# Altium schematic symbol library dungvh03-CERN_Connectors.SchLib: 576 symbols (part 6 of 8)
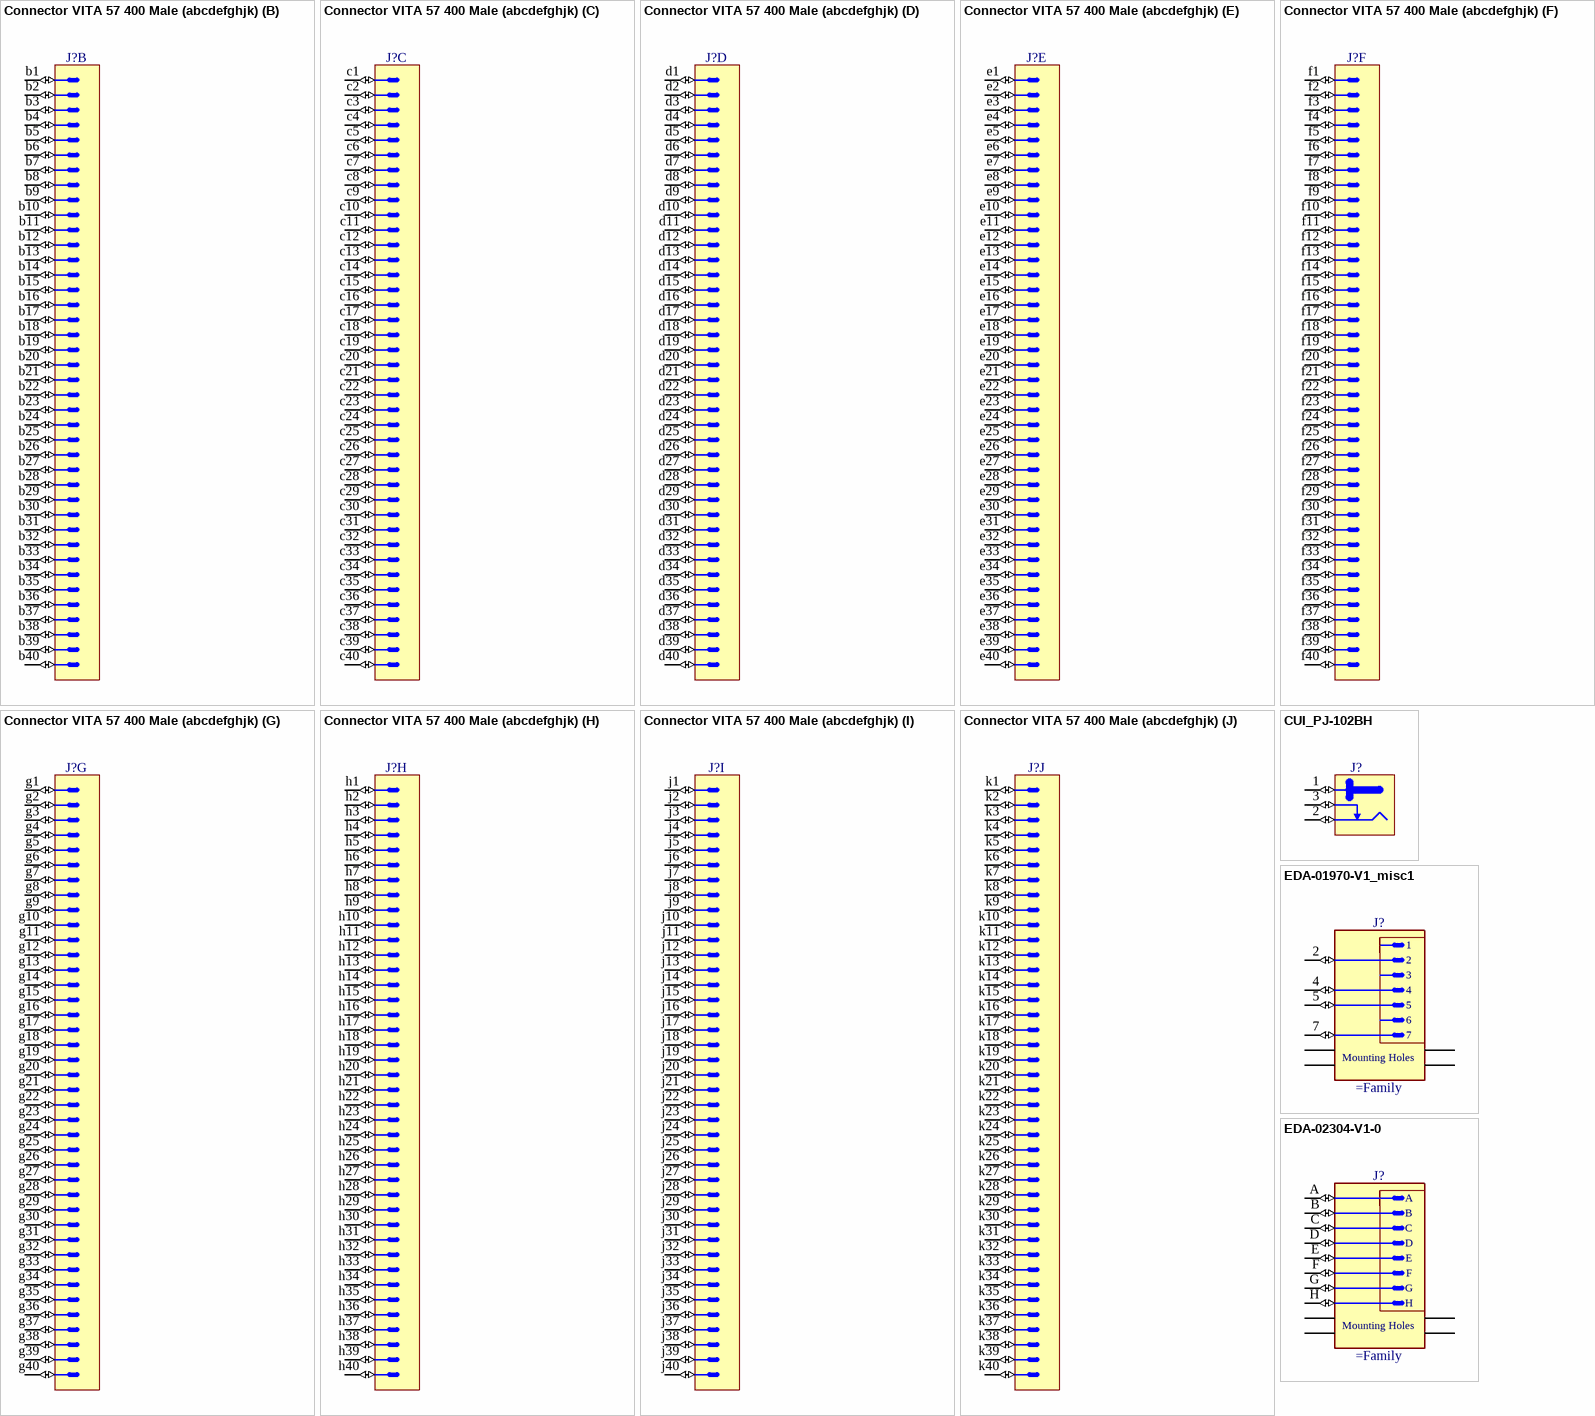
[diagram p80: symbols Connector VITA 57 400 Male (abcdefghjk) to EDA-02304-V1-0]

## Connector VITA 57 400 Male (abcdefghjk)
designator J?
Connector VITA 57, 400 Male contacts in 10 row abcdefghj
part A pins: a1 (io), a2 (io), a3 (io), a4 (io), a5 (io), a6 (io), a7 (io), a8 (io), a9 (io), a10 (io), a11 (io), a12 (io), a13 (io), a14 (io), a15 (io), a16 (io), a17 (io), a18 (io), a19 (io), a20 (io), a21 (io), a22 (io), a23 (io), a24 (io), a25 (io), a26 (io), a27 (io), a28 (io), a29 (io), a30 (io), a31 (io), a32 (io), a33 (io), a34 (io), a35 (io), a36 (io), a37 (io), a38 (io), a39 (io), a40 (io)
part B pins: b1 (io), b2 (io), b3 (io), b4 (io), b5 (io), b6 (io), b7 (io), b8 (io), b9 (io), b10 (io), b11 (io), b12 (io), b13 (io), b14 (io), b15 (io), b16 (io), b17 (io), b18 (io), b19 (io), b20 (io), b21 (io), b22 (io), b23 (io), b24 (io), b25 (io), b26 (io), b27 (io), b28 (io), b29 (io), b30 (io), b31 (io), b32 (io), b33 (io), b34 (io), b35 (io), b36 (io), b37 (io), b38 (io), b39 (io), b40 (io)
part C pins: c1 (io), c2 (io), c3 (io), c4 (io), c5 (io), c6 (io), c7 (io), c8 (io), c9 (io), c10 (io), c11 (io), c12 (io), c13 (io), c14 (io), c15 (io), c16 (io), c17 (io), c18 (io), c19 (io), c20 (io), c21 (io), c22 (io), c23 (io), c24 (io), c25 (io), c26 (io), c27 (io), c28 (io), c29 (io), c30 (io), c31 (io), c32 (io), c33 (io), c34 (io), c35 (io), c36 (io), c37 (io), c38 (io), c39 (io), c40 (io)
part D pins: d1 (io), d2 (io), d3 (io), d4 (io), d5 (io), d6 (io), d7 (io), d8 (io), d9 (io), d10 (io), d11 (io), d12 (io), d13 (io), d14 (io), d15 (io), d16 (io), d17 (io), d18 (io), d19 (io), d20 (io), d21 (io), d22 (io), d23 (io), d24 (io), d25 (io), d26 (io), d27 (io), d28 (io), d29 (io), d30 (io), d31 (io), d32 (io), d33 (io), d34 (io), d35 (io), d36 (io), d37 (io), d38 (io), d39 (io), d40 (io)
part E pins: e1 (io), e2 (io), e3 (io), e4 (io), e5 (io), e6 (io), e7 (io), e8 (io), e9 (io), e10 (io), e11 (io), e12 (io), e13 (io), e14 (io), e15 (io), e16 (io), e17 (io), e18 (io), e19 (io), e20 (io), e21 (io), e22 (io), e23 (io), e24 (io), e25 (io), e26 (io), e27 (io), e28 (io), e29 (io), e30 (io), e31 (io), e32 (io), e33 (io), e34 (io), e35 (io), e36 (io), e37 (io), e38 (io), e39 (io), e40 (io)
part F pins: f1 (io), f2 (io), f3 (io), f4 (io), f5 (io), f6 (io), f7 (io), f8 (io), f9 (io), f10 (io), f11 (io), f12 (io), f13 (io), f14 (io), f15 (io), f16 (io), f17 (io), f18 (io), f19 (io), f20 (io), f21 (io), f22 (io), f23 (io), f24 (io), f25 (io), f26 (io), f27 (io), f28 (io), f29 (io), f30 (io), f31 (io), f32 (io), f33 (io), f34 (io), f35 (io), f36 (io), f37 (io), f38 (io), f39 (io), f40 (io)
part G pins: g1 (io), g2 (io), g3 (io), g4 (io), g5 (io), g6 (io), g7 (io), g8 (io), g9 (io), g10 (io), g11 (io), g12 (io), g13 (io), g14 (io), g15 (io), g16 (io), g17 (io), g18 (io), g19 (io), g20 (io), g21 (io), g22 (io), g23 (io), g24 (io), g25 (io), g26 (io), g27 (io), g28 (io), g29 (io), g30 (io), g31 (io), g32 (io), g33 (io), g34 (io), g35 (io), g36 (io), g37 (io), g38 (io), g39 (io), g40 (io)
part H pins: h1 (io), h2 (io), h3 (io), h4 (io), h5 (io), h6 (io), h7 (io), h8 (io), h9 (io), h10 (io), h11 (io), h12 (io), h13 (io), h14 (io), h15 (io), h16 (io), h17 (io), h18 (io), h19 (io), h20 (io), h21 (io), h22 (io), h23 (io), h24 (io), h25 (io), h26 (io), h27 (io), h28 (io), h29 (io), h30 (io), h31 (io), h32 (io), h33 (io), h34 (io), h35 (io), h36 (io), h37 (io), h38 (io), h39 (io), h40 (io)
part I pins: j1 (io), j2 (io), j3 (io), j4 (io), j5 (io), j6 (io), j7 (io), j8 (io), j9 (io), j10 (io), j11 (io), j12 (io), j13 (io), j14 (io), j15 (io), j16 (io), j17 (io), j18 (io), j19 (io), j20 (io), j21 (io), j22 (io), j23 (io), j24 (io), j25 (io), j26 (io), j27 (io), j28 (io), j29 (io), j30 (io), j31 (io), j32 (io), j33 (io), j34 (io), j35 (io), j36 (io), j37 (io), j38 (io), j39 (io), j40 (io)
part J pins: k1 (io), k2 (io), k3 (io), k4 (io), k5 (io), k6 (io), k7 (io), k8 (io), k9 (io), k10 (io), k11 (io), k12 (io), k13 (io), k14 (io), k15 (io), k16 (io), k17 (io), k18 (io), k19 (io), k20 (io), k21 (io), k22 (io), k23 (io), k24 (io), k25 (io), k26 (io), k27 (io), k28 (io), k29 (io), k30 (io), k31 (io), k32 (io), k33 (io), k34 (io), k35 (io), k36 (io), k37 (io), k38 (io), k39 (io), k40 (io)

## CUI_PJ-102BH
designator J?
2.5 mm Center Pin, 5A, 24V Right Angle, Through Hole, Tapered Pins, DC Power Jack Connector
pins: 1 (io), 2 (io), 3 (io)

## EDA-01970-V1_misc1
designator J?
SOURIAU UTG0187PVDEX Connector (VDE 7 Male Contacts Only 4 Used) Mounted On 20mm M3 Spacer
pins: 2 (io), 4 (io), 5 (io), 7 (io), MECH1 (power), MECH2 (power), MECH3 (power), MECH4 (power)
text: 1; 3; 6; Mounting; Holes

## EDA-02304-V1-0
designator J?
SOURIAU UTG0187PVDEX Connector (VDE 7 Male Contacts Only 4 Used) Mounted On 20mm M3 Spacer
pins: A (io), B (io), C (io), D (io), E (io), F (io), G (io), H (io), MECH1 (power), MECH2 (power), MECH3 (power), MECH4 (power)
text: Mounting; Holes

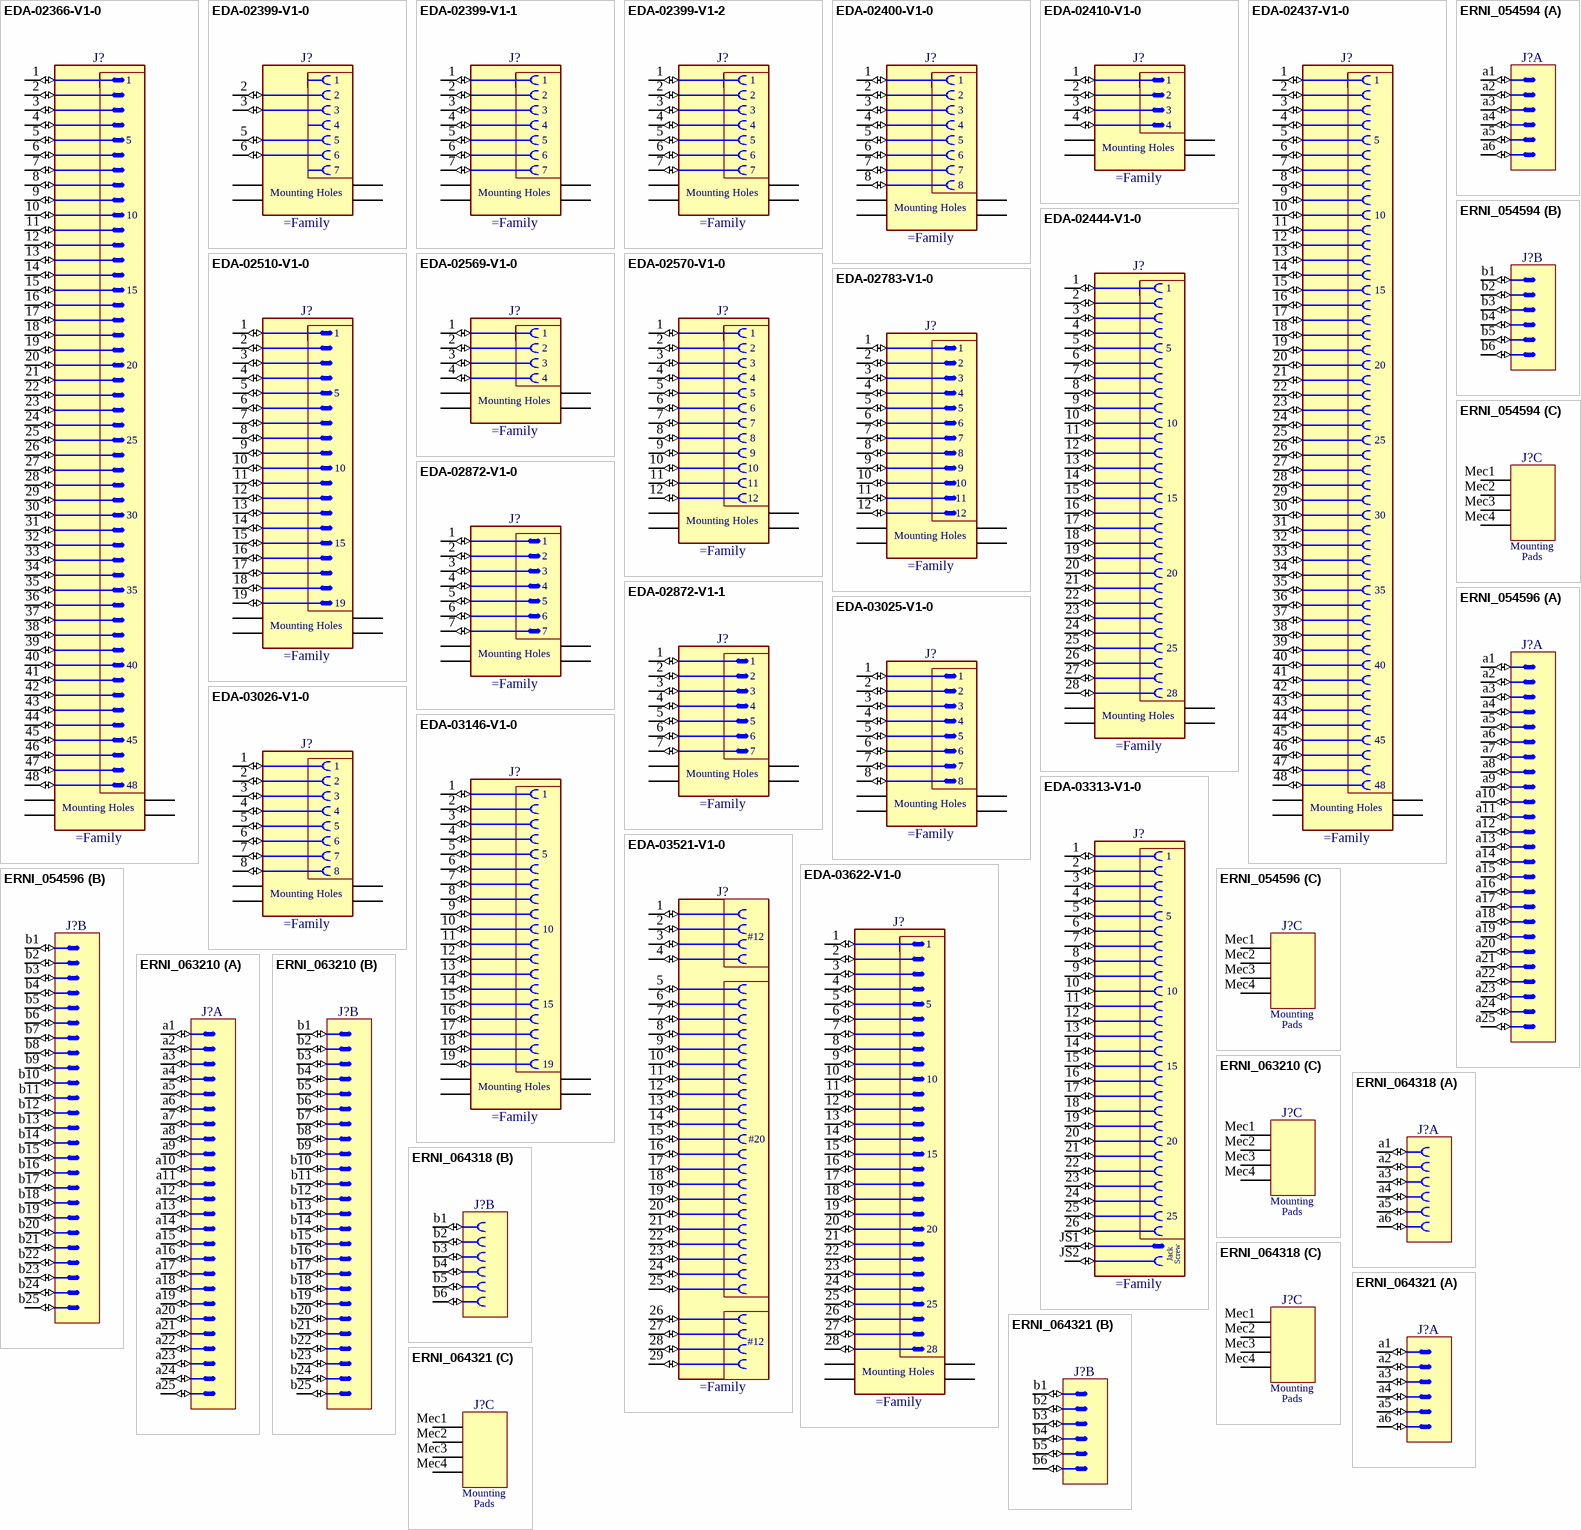
[diagram p55: symbols EDA-02366-V1-0 to ERNI_064321]

## EDA-02366-V1-0
designator J?
Adapter Kit For PCB Mount For SOURIAU UTO02448P21T, 48 Poles, Shell Size 24, UT Bantam Circular Male Connector. UTO Series
pins: 1 (io), 2 (io), 3 (io), 4 (io), 5 (io), 6 (io), 7 (io), 8 (io), 9 (io), 10 (io), 11 (io), 12 (io), 13 (io), 14 (io), 15 (io), 16 (io), 17 (io), 18 (io), 19 (io), 20 (io), 21 (io), 22 (io), 23 (io), 24 (io), 25 (io), 26 (io), 27 (io), 28 (io), 29 (io), 30 (io), 31 (io), 32 (io), 33 (io), 34 (io), 35 (io), 36 (io), 37 (io), 38 (io), 39 (io), 40 (io), 41 (io), 42 (io), 43 (io), 44 (io), 45 (io), 46 (io), 47 (io), 48 (io), MECH1 (power), MECH2 (power), MECH3 (power), MECH4 (power)
text: Mounting; Holes

## EDA-02399-V1-0
designator J?
SOURIAU UTG0187PVDEX Connector (VDE 7 Male Contacts Only 4 Used) Mounted On 20mm M3 Spacer
pins: 2 (io), 3 (io), 5 (io), 6 (io), MECH1 (power), MECH2 (power), MECH3 (power), MECH4 (power)
text: 1; 4; 7; Mounting; Holes

## EDA-02399-V1-1
designator J?
SOURIAU UTG0187SVDEX Connector (VDE 7 Male Contacts  Mounted On 20mm M3 Spacer
pins: 1 (io), 2 (io), 3 (io), 4 (io), 5 (io), 6 (io), 7 (io), MECH1 (power), MECH2 (power), MECH3 (power), MECH4 (power)
text: Mounting; Holes

## EDA-02399-V1-2
designator J?
SOURIAU UTG0187SVDEX Connector (VDE 7 Male Contacts  Mounted On 20mm M3 Spacer
pins: 1 (io), 2 (io), 3 (io), 4 (io), 5 (io), 6 (io), 7 (io), MECH1 (power), MECH2 (power), MECH3 (power), MECH4 (power)
text: Mounting; Holes

## EDA-02400-V1-0
designator J?
Adapter Kit For PCB Mount For SOURIAU UTG0128S03, 8 Poles, Shell Size 12, Metalok Bantam Circular Female Receptacle
pins: 1 (io), 2 (io), 3 (io), 4 (io), 5 (io), 6 (io), 7 (io), 8 (io), MECH1 (power), MECH2 (power), MECH3 (power), MECH4 (power)
text: Mounting; Holes

## EDA-02410-V1-0
designator J?
SOURIAU UTO0104P21T Adapter Kit For PCB Mount, 4 Poles, Shell Size 10, UT Bantam Circular Male Connector
pins: 1 (io), 2 (io), 3 (io), 4 (io), MECH1 (power), MECH2 (power), MECH3 (power), MECH4 (power)
text: Mounting; Holes

## EDA-02437-V1-0
designator J?
Adapter Kit For PCB Mount For SOURIAU UTO02448S21T, 48 Poles, Shell Size 24, UT Bantam Circular Female Connector. UTO Series
pins: 1 (io), 2 (io), 3 (io), 4 (io), 5 (io), 6 (io), 7 (io), 8 (io), 9 (io), 10 (io), 11 (io), 12 (io), 13 (io), 14 (io), 15 (io), 16 (io), 17 (io), 18 (io), 19 (io), 20 (io), 21 (io), 22 (io), 23 (io), 24 (io), 25 (io), 26 (io), 27 (io), 28 (io), 29 (io), 30 (io), 31 (io), 32 (io), 33 (io), 34 (io), 35 (io), 36 (io), 37 (io), 38 (io), 39 (io), 40 (io), 41 (io), 42 (io), 43 (io), 44 (io), 45 (io), 46 (io), 47 (io), 48 (io), MECH1 (power), MECH2 (power), MECH3 (power), MECH4 (power)
text: Mounting; Holes

## EDA-02444-V1-0
designator J?
Adapter Kit For PCB Mount For SOURIAU UTG02028S03, 28 Poles, Shell Size 20, Metalok Bantam Circular Female Connector. UTG Series
pins: 1 (io), 2 (io), 3 (io), 4 (io), 5 (io), 6 (io), 7 (io), 8 (io), 9 (io), 10 (io), 11 (io), 12 (io), 13 (io), 14 (io), 15 (io), 16 (io), 17 (io), 18 (io), 19 (io), 20 (io), 21 (io), 22 (io), 23 (io), 24 (io), 25 (io), 26 (io), 27 (io), 28 (io), MECH1 (power), MECH2 (power), MECH3 (power), MECH4 (power)
text: Mounting; Holes

## EDA-02510-V1-0
designator J?
SOURIAU UTO02448P21T Adapter Kit For PCB Mount, 19 Poles, Shell Size 16, UT Bantam Circular Male Connector
pins: 1 (io), 2 (io), 3 (io), 4 (io), 5 (io), 6 (io), 7 (io), 8 (io), 9 (io), 10 (io), 11 (io), 12 (io), 13 (io), 14 (io), 15 (io), 16 (io), 17 (io), 18 (io), 19 (io), MECH1 (power), MECH2 (power), MECH3 (power), MECH4 (power)
text: Mounting; Holes

## EDA-02569-V1-0
designator J?
SOURIAU UTO0104S21T Adapter Kit For PCB Mount, 4 Poles, Shell Size 10, UT Bantam Circular Female Connector
pins: 1 (io), 2 (io), 3 (io), 4 (io), MECH1 (power), MECH2 (power), MECH3 (power), MECH4 (power)
text: Mounting; Holes

## EDA-02570-V1-0
designator J?
SOURIAU UTO01412S21T Adapter Kit For PCB Mount, 12 Poles, Shell Size 14, UT Bantam Circular Female Connector
pins: 1 (io), 2 (io), 3 (io), 4 (io), 5 (io), 6 (io), 7 (io), 8 (io), 9 (io), 10 (io), 11 (io), 12 (io), MECH1 (power), MECH2 (power), MECH3 (power), MECH4 (power)
text: Mounting; Holes

## EDA-02783-V1-0
designator J?
SOURIAU UTO01412P21T Adapter Kit For PCB Mount, 12 Poles, Shell Size 14, UT Bantam Circular Male Connector
pins: 1 (io), 2 (io), 3 (io), 4 (io), 5 (io), 6 (io), 7 (io), 8 (io), 9 (io), 10 (io), 11 (io), 12 (io), MECH1 (power), MECH2 (power), MECH3 (power), MECH4 (power)
text: Mounting; Holes

## EDA-02872-V1-0
designator J?
SOURIAU UTG0187PVDEX Adapter Kit For PCB Mount, 7 Poles, VDE  Metalok Bantam Circular Male Connector
pins: 1 (io), 2 (io), 3 (io), 4 (io), 5 (io), 6 (io), 7 (io), MECH1 (power), MECH2 (power), MECH3 (power), MECH4 (power)
text: Mounting; Holes

## EDA-02872-V1-1
designator J?
SOURIAU UTG0187PVDEX Adapter Kit For PCB Mount, 7 Poles, VDE  Metalok Bantam Circular Male Connector
pins: 1 (io), 2 (io), 3 (io), 4 (io), 5 (io), 6 (io), 7 (io), MECH1 (power), MECH2 (power), MECH3 (power), MECH4 (power)
text: Mounting; Holes

## EDA-03025-V1-0
designator J?
SOURIAU UTO0128P21T Adapter Kit For PCB Mount, 8 Poles, Shell Size 12, UT Bantam Circular Male Connector
pins: 1 (io), 2 (io), 3 (io), 4 (io), 5 (io), 6 (io), 7 (io), 8 (io), MECH1 (power), MECH2 (power), MECH3 (power), MECH4 (power)
text: Mounting; Holes

## EDA-03026-V1-0
designator J?
SOURIAU UTO0128S21T Adapter Kit For PCB Mount, 8 Poles, Shell Size 12, UT Bantam Circular Female Connector
pins: 1 (io), 2 (io), 3 (io), 4 (io), 5 (io), 6 (io), 7 (io), 8 (io), MECH1 (power), MECH2 (power), MECH3 (power), MECH4 (power)
text: Mounting; Holes

## EDA-03146-V1-0
designator J?
SOURIAU UTO01619S21T Adapter Kit For PCB Mount, 19 Poles, Shell Size 16, UT Bantam Circular Female Connector
pins: 1 (io), 2 (io), 3 (io), 4 (io), 5 (io), 6 (io), 7 (io), 8 (io), 9 (io), 10 (io), 11 (io), 12 (io), 13 (io), 14 (io), 15 (io), 16 (io), 17 (io), 18 (io), 19 (io), MECH1 (power), MECH2 (power), MECH3 (power), MECH4 (power)
text: Mounting; Holes

## EDA-03313-V1-0
designator J?
RADIALL 690522 Adapter Kit for PCB Mount, 26 Contacts Female, MMC Series
pins: 1 (io), 2 (io), 3 (io), 4 (io), 5 (io), 6 (io), 7 (io), 8 (io), 9 (io), 10 (io), 11 (io), 12 (io), 13 (io), 14 (io), 15 (io), 16 (io), 17 (io), 18 (io), 19 (io), 20 (io), 21 (io), 22 (io), 23 (io), 24 (io), 25 (io), 26 (io), JS1 (io), JS2 (io)
text: Jack; Screw

## EDA-03521-V1-0
designator J?
TYCO ELECTRONICS 1648206-1 Adapter Kit for PCB Mount, 29 Contacts Socket Housing Size : #12 + #20 + #12, ELCON Drawer Series Connectors
pins: 1 (io), 2 (io), 3 (io), 4 (io), 5 (io), 6 (io), 7 (io), 8 (io), 9 (io), 10 (io), 11 (io), 12 (io), 13 (io), 14 (io), 15 (io), 16 (io), 17 (io), 18 (io), 19 (io), 20 (io), 21 (io), 22 (io), 23 (io), 24 (io), 25 (io), 26 (io), 27 (io), 28 (io), 29 (io)
text: #12; #20

## EDA-03622-V1-0
designator J?
SOURIAU UTG02028P02 Adapter Kit For PCB Mount, 28 Poles, Shell Size 20, Metalok Bantam Circular Male Connector, UTG0 Series
pins: 1 (io), 2 (io), 3 (io), 4 (io), 5 (io), 6 (io), 7 (io), 8 (io), 9 (io), 10 (io), 11 (io), 12 (io), 13 (io), 14 (io), 15 (io), 16 (io), 17 (io), 18 (io), 19 (io), 20 (io), 21 (io), 22 (io), 23 (io), 24 (io), 25 (io), 26 (io), 27 (io), 28 (io), MECH1 (power), MECH2 (power), MECH3 (power), MECH4 (power)
text: Mounting; Holes

## ERNI_054594
designator J?
12 Contacts Pitch 1.27 SMC Right Angle Male Connector Type B
part A pins: a1 1 (io), a2 2 (io), a3 3 (io), a4 4 (io), a5 5 (io), a6 6 (io)
part B pins: b1 1 (io), b2 2 (io), b3 3 (io), b4 4 (io), b5 5 (io), b6 6 (io)
part C pins: Mec1 "Mounting Fixture", Mec2 "Mounting Fixture", Mec3 "Mounting Fixture", Mec4 "Mounting Fixture"
part C text: Mounting; Pads

## ERNI_054596
designator J?
50 Contacts Pitch 1.27 SMC Right Angle Male Connector Type B
part A pins: a1 1 (io), a2 2 (io), a3 3 (io), a4 4 (io), a5 5 (io), a6 6 (io), a7 7 (io), a8 8 (io), a9 9 (io), a10 10 (io), a11 11 (io), a12 12 (io), a13 13 (io), a14 14 (io), a15 15 (io), a16 16 (io), a17 17 (io), a18 18 (io), a19 19 (io), a20 20 (io), a21 21 (io), a22 22 (io), a23 23 (io), a24 24 (io), a25 25 (io)
part B pins: b1 1 (io), b2 2 (io), b3 3 (io), b4 4 (io), b5 5 (io), b6 6 (io), b7 7 (io), b8 8 (io), b9 9 (io), b10 10 (io), b11 11 (io), b12 12 (io), b13 13 (io), b14 14 (io), b15 15 (io), b16 16 (io), b17 17 (io), b18 18 (io), b19 19 (io), b20 20 (io), b21 21 (io), b22 22 (io), b23 23 (io), b24 24 (io), b25 25 (io)
part C pins: Mec1 "Mounting Fixture", Mec2 "Mounting Fixture", Mec3 "Mounting Fixture", Mec4 "Mounting Fixture"
part C text: Mounting; Pads

## ERNI_063210
designator J?
50 Contacts Pitch 1.27 SMC Straight Male Connector Type Q
part A pins: a1 1 (io), a2 2 (io), a3 3 (io), a4 4 (io), a5 5 (io), a6 6 (io), a7 7 (io), a8 8 (io), a9 9 (io), a10 10 (io), a11 11 (io), a12 12 (io), a13 13 (io), a14 14 (io), a15 15 (io), a16 16 (io), a17 17 (io), a18 18 (io), a19 19 (io), a20 20 (io), a21 21 (io), a22 22 (io), a23 23 (io), a24 24 (io), a25 25 (io)
part B pins: b1 1 (io), b2 2 (io), b3 3 (io), b4 4 (io), b5 5 (io), b6 6 (io), b7 7 (io), b8 8 (io), b9 9 (io), b10 10 (io), b11 11 (io), b12 12 (io), b13 13 (io), b14 14 (io), b15 15 (io), b16 16 (io), b17 17 (io), b18 18 (io), b19 19 (io), b20 20 (io), b21 21 (io), b22 22 (io), b23 23 (io), b24 24 (io), b25 25 (io)
part C pins: Mec1 "Mounting Fixture", Mec2 "Mounting Fixture", Mec3 "Mounting Fixture", Mec4 "Mounting Fixture"
part C text: Mounting; Pads

## ERNI_064318
designator J?
12 Contacts Pitch 1.27 SMC Vertical Female Connector Type B
part A pins: a1 1 (io), a2 2 (io), a3 3 (io), a4 4 (io), a5 5 (io), a6 6 (io)
part B pins: b1 1 (io), b2 2 (io), b3 3 (io), b4 4 (io), b5 5 (io), b6 6 (io)
part C pins: Mec1 "Mounting Fixture", Mec2 "Mounting Fixture", Mec3 "Mounting Fixture", Mec4 "Mounting Fixture"
part C text: Mounting; Pads

## ERNI_064321
designator J?
12 Contacts Pitch 1.27 SMC Vertical Male Connector Type Q
part A pins: a1 1 (io), a2 2 (io), a3 3 (io), a4 4 (io), a5 5 (io), a6 6 (io)
part B pins: b1 1 (io), b2 2 (io), b3 3 (io), b4 4 (io), b5 5 (io), b6 6 (io)
part C pins: Mec1 "Mounting Fixture", Mec2 "Mounting Fixture", Mec3 "Mounting Fixture", Mec4 "Mounting Fixture"
part C text: Mounting; Pads

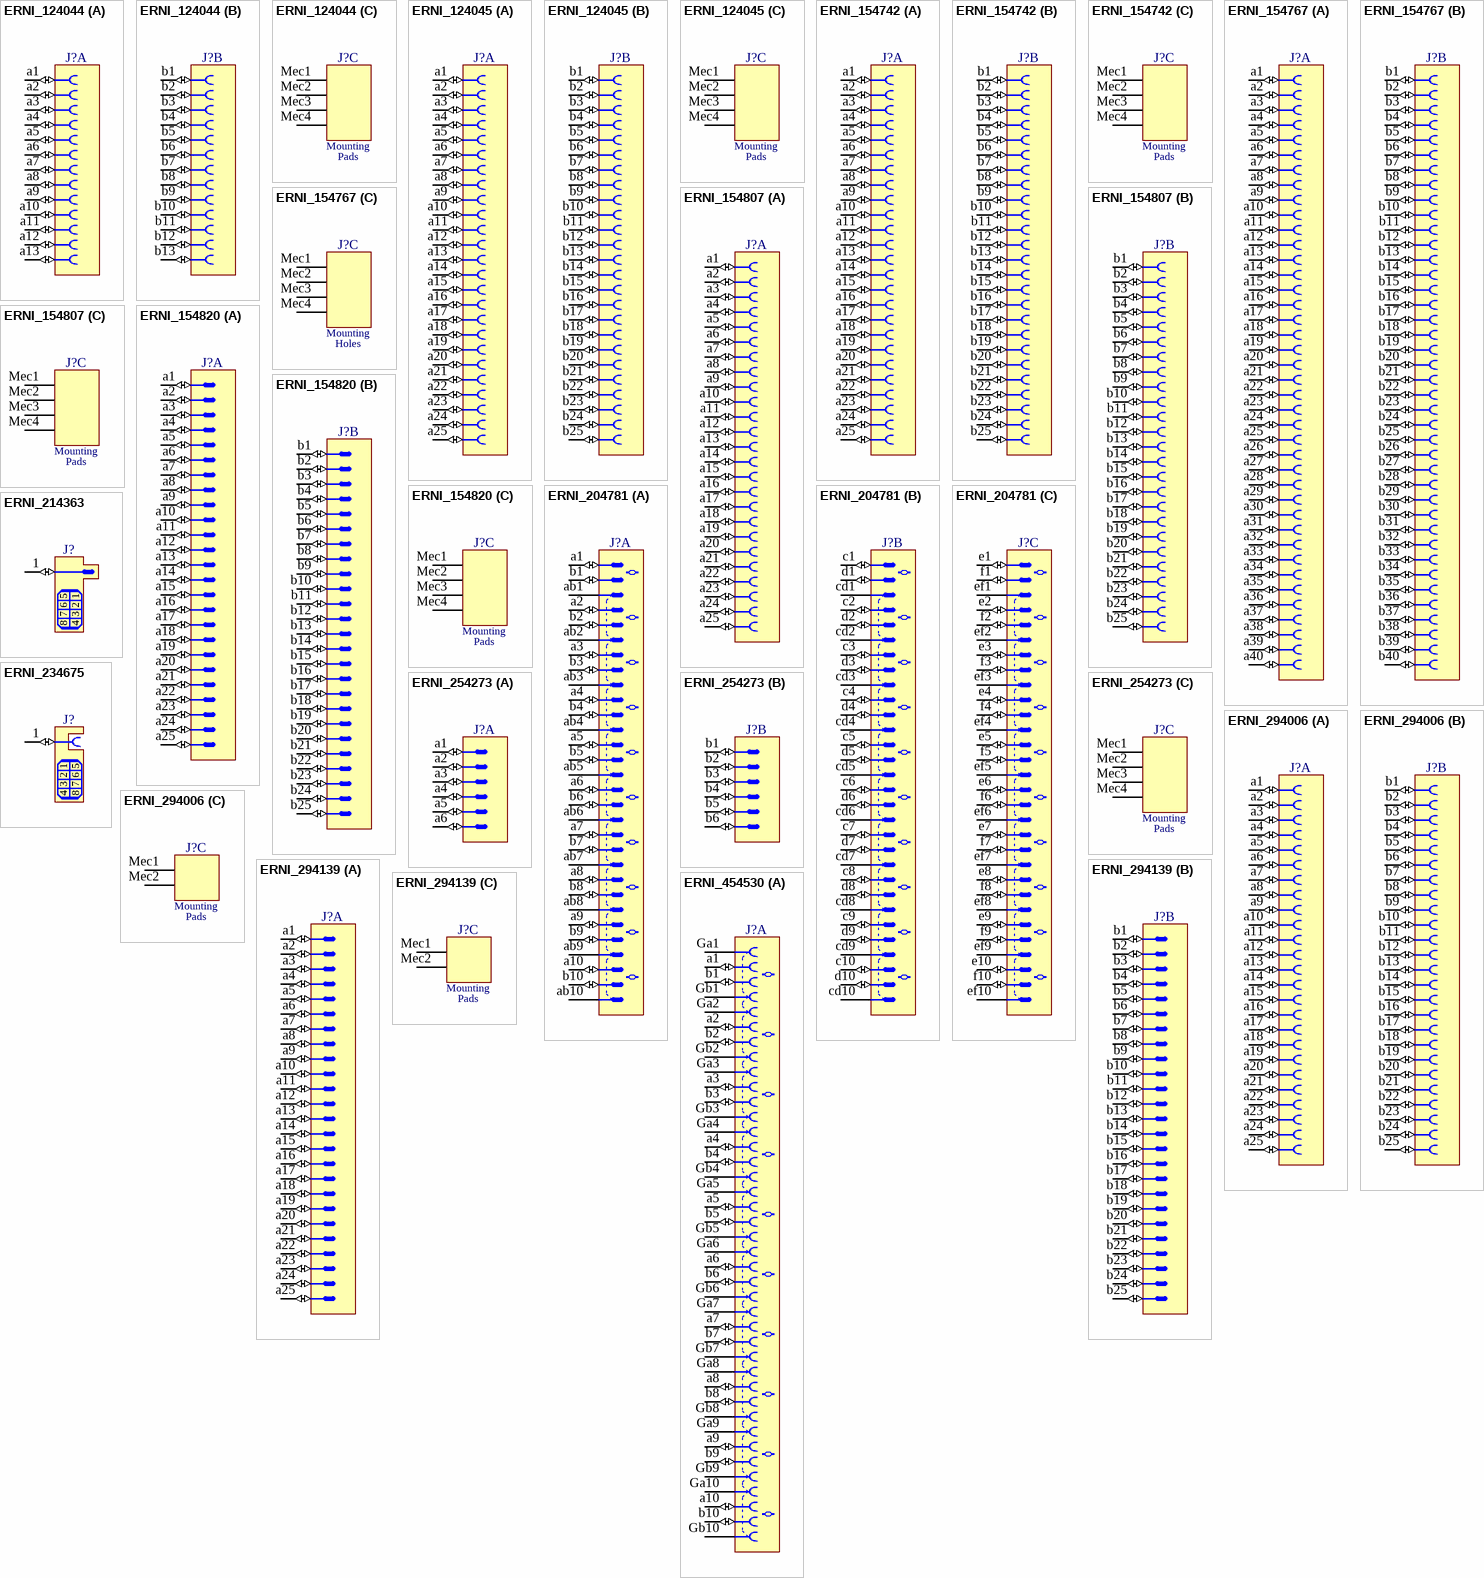
[diagram p56: symbols ERNI_124044 to ERNI_454530]

## ERNI_124044
designator J?
26 Contacts Pitch 1.27 SMC Straight Female Connector Type B
part A pins: a1 1 (io), a2 2 (io), a3 3 (io), a4 4 (io), a5 5 (io), a6 6 (io), a7 7 (io), a8 8 (io), a9 9 (io), a10 10 (io), a11 11 (io), a12 12 (io), a13 13 (io)
part B pins: b1 1 (io), b2 2 (io), b3 3 (io), b4 4 (io), b5 5 (io), b6 6 (io), b7 7 (io), b8 8 (io), b9 9 (io), b10 10 (io), b11 11 (io), b12 12 (io), b13 13 (io)
part C pins: Mec1 "Mounting Fixture", Mec2 "Mounting Fixture", Mec3 "Mounting Fixture", Mec4 "Mounting Fixture"
part C text: Mounting; Pads

## ERNI_124045
designator J?
50 Contacts Pitch 1.27  SMC Straight  Female Connector Type B
part A pins: a1 1 (io), a2 2 (io), a3 3 (io), a4 4 (io), a5 5 (io), a6 6 (io), a7 7 (io), a8 8 (io), a9 9 (io), a10 10 (io), a11 11 (io), a12 12 (io), a13 13 (io), a14 14 (io), a15 15 (io), a16 16 (io), a17 17 (io), a18 18 (io), a19 19 (io), a20 20 (io), a21 21 (io), a22 22 (io), a23 23 (io), a24 24 (io), a25 25 (io)
part B pins: b1 1 (io), b2 2 (io), b3 3 (io), b4 4 (io), b5 5 (io), b6 6 (io), b7 7 (io), b8 8 (io), b9 9 (io), b10 10 (io), b11 11 (io), b12 12 (io), b13 13 (io), b14 14 (io), b15 15 (io), b16 16 (io), b17 17 (io), b18 18 (io), b19 19 (io), b20 20 (io), b21 21 (io), b22 22 (io), b23 23 (io), b24 24 (io), b25 25 (io)
part C pins: Mec1 "Mounting Fixture", Mec2 "Mounting Fixture", Mec3 "Mounting Fixture", Mec4 "Mounting Fixture"
part C text: Mounting; Pads

## ERNI_154742
designator J?
50 Contacts Pitch 1.27  SMC Right Angle Female Connector Type Q
part A pins: a1 1 (io), a2 2 (io), a3 3 (io), a4 4 (io), a5 5 (io), a6 6 (io), a7 7 (io), a8 8 (io), a9 9 (io), a10 10 (io), a11 11 (io), a12 12 (io), a13 13 (io), a14 14 (io), a15 15 (io), a16 16 (io), a17 17 (io), a18 18 (io), a19 19 (io), a20 20 (io), a21 21 (io), a22 22 (io), a23 23 (io), a24 24 (io), a25 25 (io)
part B pins: b1 1 (io), b2 2 (io), b3 3 (io), b4 4 (io), b5 5 (io), b6 6 (io), b7 7 (io), b8 8 (io), b9 9 (io), b10 10 (io), b11 11 (io), b12 12 (io), b13 13 (io), b14 14 (io), b15 15 (io), b16 16 (io), b17 17 (io), b18 18 (io), b19 19 (io), b20 20 (io), b21 21 (io), b22 22 (io), b23 23 (io), b24 24 (io), b25 25 (io)
part C pins: Mec1 "Mounting Fixture", Mec2 "Mounting Fixture", Mec3 "Mounting Fixture", Mec4 "Mounting Fixture"
part C text: Mounting; Pads

## ERNI_154767
designator J?
80 Contacts, Pitch 1.27, SMC Right Angle Male Connector Type B
part A pins: a1 1 (io), a2 2 (io), a3 3 (io), a4 4 (io), a5 5 (io), a6 6 (io), a7 7 (io), a8 8 (io), a9 9 (io), a10 10 (io), a11 11 (io), a12 12 (io), a13 13 (io), a14 14 (io), a15 15 (io), a16 16 (io), a17 17 (io), a18 18 (io), a19 19 (io), a20 20 (io), a21 21 (io), a22 22 (io), a23 23 (io), a24 24 (io), a25 25 (io), a26 26 (io), a27 27 (io), a28 28 (io), a29 29 (io), a30 30 (io), a31 31 (io), a32 32 (io), a33 33 (io), a34 34 (io), a35 35 (io), a36 36 (io), a37 37 (io), a38 38 (io), a39 39 (io), a40 40 (io)
part B pins: b1 1 (io), b2 2 (io), b3 3 (io), b4 4 (io), b5 5 (io), b6 6 (io), b7 7 (io), b8 8 (io), b9 9 (io), b10 10 (io), b11 11 (io), b12 12 (io), b13 13 (io), b14 14 (io), b15 15 (io), b16 16 (io), b17 17 (io), b18 18 (io), b19 19 (io), b20 20 (io), b21 21 (io), b22 22 (io), b23 23 (io), b24 24 (io), b25 25 (io), b26 26 (io), b27 27 (io), b28 28 (io), b29 29 (io), b30 30 (io), b31 31 (io), b32 32 (io), b33 33 (io), b34 34 (io), b35 35 (io), b36 36 (io), b37 37 (io), b38 38 (io), b39 39 (io), b40 40 (io)
part C pins: Mec1 "Mounting Fixture", Mec2 "Mounting Fixture", Mec3 "Mounting Fixture", Mec4 "Mounting Fixture"
part C text: Mounting; Holes

## ERNI_154807
designator J?
50 Contacts Pitch 1.27  SMC Straight  Female Connector Type B
part A pins: a1 1 (io), a2 2 (io), a3 3 (io), a4 4 (io), a5 5 (io), a6 6 (io), a7 7 (io), a8 8 (io), a9 9 (io), a10 10 (io), a11 11 (io), a12 12 (io), a13 13 (io), a14 14 (io), a15 15 (io), a16 16 (io), a17 17 (io), a18 18 (io), a19 19 (io), a20 20 (io), a21 21 (io), a22 22 (io), a23 23 (io), a24 24 (io), a25 25 (io)
part B pins: b1 1 (io), b2 2 (io), b3 3 (io), b4 4 (io), b5 5 (io), b6 6 (io), b7 7 (io), b8 8 (io), b9 9 (io), b10 10 (io), b11 11 (io), b12 12 (io), b13 13 (io), b14 14 (io), b15 15 (io), b16 16 (io), b17 17 (io), b18 18 (io), b19 19 (io), b20 20 (io), b21 21 (io), b22 22 (io), b23 23 (io), b24 24 (io), b25 25 (io)
part C pins: Mec1 "Mounting Fixture", Mec2 "Mounting Fixture", Mec3 "Mounting Fixture", Mec4 "Mounting Fixture"
part C text: Mounting; Pads

## ERNI_154820
designator J?
50 Contacts Pitch 1.27 SMC Straight Male Connector Type Q
part A pins: a1 1 (io), a2 2 (io), a3 3 (io), a4 4 (io), a5 5 (io), a6 6 (io), a7 7 (io), a8 8 (io), a9 9 (io), a10 10 (io), a11 11 (io), a12 12 (io), a13 13 (io), a14 14 (io), a15 15 (io), a16 16 (io), a17 17 (io), a18 18 (io), a19 19 (io), a20 20 (io), a21 21 (io), a22 22 (io), a23 23 (io), a24 24 (io), a25 25 (io)
part B pins: b1 1 (io), b2 2 (io), b3 3 (io), b4 4 (io), b5 5 (io), b6 6 (io), b7 7 (io), b8 8 (io), b9 9 (io), b10 10 (io), b11 11 (io), b12 12 (io), b13 13 (io), b14 14 (io), b15 15 (io), b16 16 (io), b17 17 (io), b18 18 (io), b19 19 (io), b20 20 (io), b21 21 (io), b22 22 (io), b23 23 (io), b24 24 (io), b25 25 (io)
part C pins: Mec1 "Mounting Fixture", Mec2 "Mounting Fixture", Mec3 "Mounting Fixture", Mec4 "Mounting Fixture"
part C text: Mounting; Pads

## ERNI_204781
designator J?
90 Contacts, 6 Rows (a,b,c,d,e,f) of 10 positions + 3 Shield Rows (ab, cd, ef) of 10 Positions, Pitch 2 mm,  Press-Fit, Right Angle ERmet ZD High Speed Differential Hard Metric Male Connector
part A pins: a1 (io), a2 (io), a3 (io), a4 (io), a5 (io), a6 (io), a7 (io), a8 (io), a9 (io), a10 (io), ab1 (power), ab2 (power), ab3 (power), ab4 (power), ab5 (power), ab6 (power), ab7 (power), ab8 (power), ab9 (power), ab10 (power), b1 (io), b2 (io), b3 (io), b4 (io), b5 (io), b6 (io), b7 (io), b8 (io), b9 (io), b10 (io)
part B pins: c1 (io), c2 (io), c3 (io), c4 (io), c5 (io), c6 (io), c7 (io), c8 (io), c9 (io), c10 (io), cd1 (power), cd2 (power), cd3 (power), cd4 (power), cd5 (power), cd6 (power), cd7 (power), cd8 (power), cd9 (power), cd10 (power), d1 (io), d2 (io), d3 (io), d4 (io), d5 (io), d6 (io), d7 (io), d8 (io), d9 (io), d10 (io)
part C pins: e1 (io), e2 (io), e3 (io), e4 (io), e5 (io), e6 (io), e7 (io), e8 (io), e9 (io), e10 (io), ef1 (power), ef2 (power), ef3 (power), ef4 (power), ef5 (power), ef6 (power), ef7 (power), ef8 (power), ef9 (power), ef10 (power), f1 (io), f2 (io), f3 (io), f4 (io), f5 (io), f6 (io), f7 (io), f8 (io), f9 (io), f10 (io)

## ERNI_214363
designator J?
Guiding Pin with Socket for Coding Keys
pins: 1 (io)
text: 5; 6; 2; 7; 3; 8; 4

## ERNI_234675
designator J?
Bush with Electrical Contact and Socket for Coding Keys
pins: 1 (io)
text: 5; 2; 6; 3; 7; 4; 8

## ERNI_254273
designator J?
12 Contacts Pitch 1.27 SMC Right Angle Male Connector Type B
part A pins: a1 1 (io), a2 2 (io), a3 3 (io), a4 4 (io), a5 5 (io), a6 6 (io)
part B pins: b1 1 (io), b2 2 (io), b3 3 (io), b4 4 (io), b5 5 (io), b6 6 (io)
part C pins: Mec1 "Mounting Fixture", Mec2 "Mounting Fixture", Mec3 "Mounting Fixture", Mec4 "Mounting Fixture"
part C text: Mounting; Pads

## ERNI_294006
designator J?
50 Contacts Pitch 0.8  SMT Vertical Female Connector Type MicroCon
part A pins: a1 1 (io), a2 2 (io), a3 3 (io), a4 4 (io), a5 5 (io), a6 6 (io), a7 7 (io), a8 8 (io), a9 9 (io), a10 10 (io), a11 11 (io), a12 12 (io), a13 13 (io), a14 14 (io), a15 15 (io), a16 16 (io), a17 17 (io), a18 18 (io), a19 19 (io), a20 20 (io), a21 21 (io), a22 22 (io), a23 23 (io), a24 24 (io), a25 25 (io)
part B pins: b1 1 (io), b2 2 (io), b3 3 (io), b4 4 (io), b5 5 (io), b6 6 (io), b7 7 (io), b8 8 (io), b9 9 (io), b10 10 (io), b11 11 (io), b12 12 (io), b13 13 (io), b14 14 (io), b15 15 (io), b16 16 (io), b17 17 (io), b18 18 (io), b19 19 (io), b20 20 (io), b21 21 (io), b22 22 (io), b23 23 (io), b24 24 (io), b25 25 (io)
part C pins: Mec1 "Mounting Fixture", Mec2 "Mounting Fixture"
part C text: Mounting; Pads

## ERNI_294139
designator J?
50 Contacts Pitch 0.8  SMT Vertical Male Connector Type MicroCon
part A pins: a1 1 (io), a2 2 (io), a3 3 (io), a4 4 (io), a5 5 (io), a6 6 (io), a7 7 (io), a8 8 (io), a9 9 (io), a10 10 (io), a11 11 (io), a12 12 (io), a13 13 (io), a14 14 (io), a15 15 (io), a16 16 (io), a17 17 (io), a18 18 (io), a19 19 (io), a20 20 (io), a21 21 (io), a22 22 (io), a23 23 (io), a24 24 (io), a25 25 (io)
part B pins: b1 1 (io), b2 2 (io), b3 3 (io), b4 4 (io), b5 5 (io), b6 6 (io), b7 7 (io), b8 8 (io), b9 9 (io), b10 10 (io), b11 11 (io), b12 12 (io), b13 13 (io), b14 14 (io), b15 15 (io), b16 16 (io), b17 17 (io), b18 18 (io), b19 19 (io), b20 20 (io), b21 21 (io), b22 22 (io), b23 23 (io), b24 24 (io), b25 25 (io)
part C pins: Mec1 "Mounting Fixture", Mec2 "Mounting Fixture"
part C text: Mounting; Pads

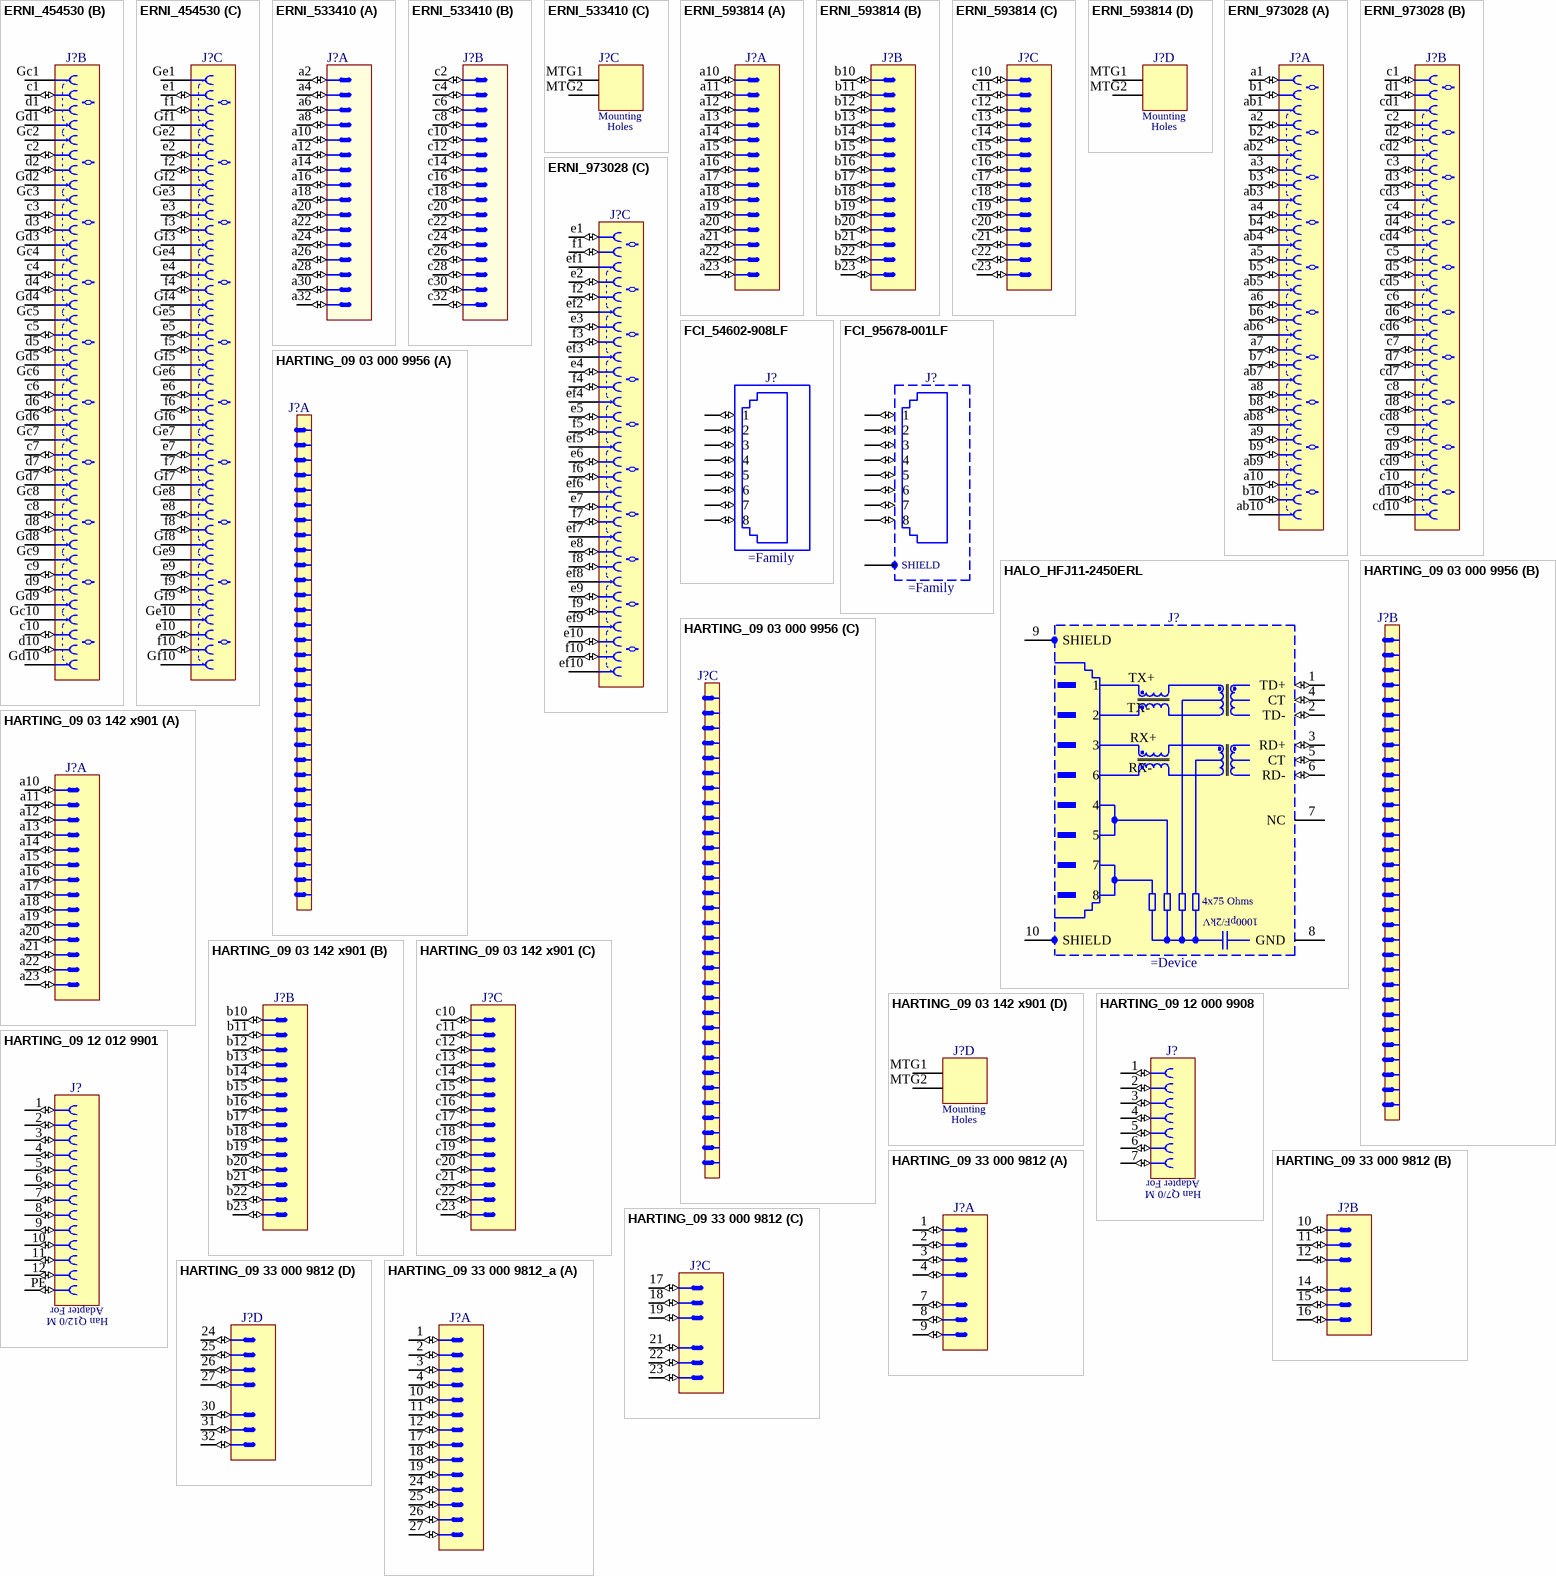
[diagram p57: symbols ERNI_454530 to HARTING_09 33 000 9812_a]

## ERNI_454530
designator J?
120 Contacts, 6 Rows  (a,b,c,d,e,f) of 10 Contacts + 6 Shield Rows (Ga,Gb,Gc,Gd,Ge,Gf) of 10 Contacts, Pitch 2.5 mm,  Press-Fit, Right Angle ERmet ZDplus High Speed Differential Hard Metric Female Connector
part A pins: a1 (io), a2 (io), a3 (io), a4 (io), a5 (io), a6 (io), a7 (io), a8 (io), a9 (io), a10 (io), b1 (io), b2 (io), b3 (io), b4 (io), b5 (io), b6 (io), b7 (io), b8 (io), b9 (io), b10 (io), Ga1 (power), Ga2 (power), Ga3 (power), Ga4 (power), Ga5 (power), Ga6 (power), Ga7 (power), Ga8 (power), Ga9 (power), Ga10 (power), Gb1 (power), Gb2 (power), Gb3 (power), Gb4 (power), Gb5 (power), Gb6 (power), Gb7 (power), Gb8 (power), Gb9 (power), Gb10 (power)
part B pins: c1 (io), c2 (io), c3 (io), c4 (io), c5 (io), c6 (io), c7 (io), c8 (io), c9 (io), c10 (io), d1 (io), d2 (io), d3 (io), d4 (io), d5 (io), d6 (io), d7 (io), d8 (io), d9 (io), d10 (io), Gc1 (power), Gc2 (power), Gc3 (power), Gc4 (power), Gc5 (power), Gc6 (power), Gc7 (power), Gc8 (power), Gc9 (power), Gc10 (power), Gd1 (power), Gd2 (power), Gd3 (power), Gd4 (power), Gd5 (power), Gd6 (power), Gd7 (power), Gd8 (power), Gd9 (power), Gd10 (power)
part C pins: e1 (io), e2 (io), e3 (io), e4 (io), e5 (io), e6 (io), e7 (io), e8 (io), e9 (io), e10 (io), f1 (io), f2 (io), f3 (io), f4 (io), f5 (io), f6 (io), f7 (io), f8 (io), f9 (io), f10 (io), Ge1 (power), Ge2 (power), Ge3 (power), Ge4 (power), Ge5 (power), Ge6 (power), Ge7 (power), Ge8 (power), Ge9 (power), Ge10 (power), Gf1 (power), Gf2 (power), Gf3 (power), Gf4 (power), Gf5 (power), Gf6 (power), Gf7 (power), Gf8 (power), Gf9 (power), Gf10 (power)

## ERNI_533410
designator J?
Eurocard DIN 41612, Type C, 32 Position, Rows a+c, Performance level 2, Male, Lead 3.0 mm, Pitch 2.54 mm
part A pins: a2 (io), a4 (io), a6 (io), a8 (io), a10 (io), a12 (io), a14 (io), a16 (io), a18 (io), a20 (io), a22 (io), a24 (io), a26 (io), a28 (io), a30 (io), a32 (io)
part B pins: c2 (io), c4 (io), c6 (io), c8 (io), c10 (io), c12 (io), c14 (io), c16 (io), c18 (io), c20 (io), c22 (io), c24 (io), c26 (io), c28 (io), c30 (io), c32 (io)
part C pins: MTG1 "Mounting Fixture", MTG2 "Mounting Fixture"
part C text: Mounting; Holes

## ERNI_593814
designator J?
DIN 41612, Type M, 42 + 6 Special Contacts, Male, Right Angle Connector
part A pins: a10 (io), a11 (io), a12 (io), a13 (io), a14 (io), a15 (io), a16 (io), a17 (io), a18 (io), a19 (io), a20 (io), a21 (io), a22 (io), a23 (io)
part B pins: b10 (io), b11 (io), b12 (io), b13 (io), b14 (io), b15 (io), b16 (io), b17 (io), b18 (io), b19 (io), b20 (io), b21 (io), b22 (io), b23 (io)
part C pins: c10 (io), c11 (io), c12 (io), c13 (io), c14 (io), c15 (io), c16 (io), c17 (io), c18 (io), c19 (io), c20 (io), c21 (io), c22 (io), c23 (io)
part D pins: MTG1 "Mounting Fixture", MTG2 "Mounting Fixture"
part D text: Mounting; Holes

## ERNI_973028
designator J?
90 Contacts, 6 Rows  (a,b,c,d,e,f) of 10 positions + 3 Shield Rows (ab, cd, ef) of 10 Positions, Pitch 2.5 mm,  Press-Fit, Right Angle ERmet ZD High Speed Differential Hard Metric Female Connector
part A pins: a1 (io), a2 (io), a3 (io), a4 (io), a5 (io), a6 (io), a7 (io), a8 (io), a9 (io), a10 (io), ab1 (power), ab2 (power), ab3 (power), ab4 (power), ab5 (power), ab6 (power), ab7 (power), ab8 (power), ab9 (power), ab10 (power), b1 (io), b2 (io), b3 (io), b4 (io), b5 (io), b6 (io), b7 (io), b8 (io), b9 (io), b10 (io)
part B pins: c1 (io), c2 (io), c3 (io), c4 (io), c5 (io), c6 (io), c7 (io), c8 (io), c9 (io), c10 (io), cd1 (power), cd2 (power), cd3 (power), cd4 (power), cd5 (power), cd6 (power), cd7 (power), cd8 (power), cd9 (power), cd10 (power), d1 (io), d2 (io), d3 (io), d4 (io), d5 (io), d6 (io), d7 (io), d8 (io), d9 (io), d10 (io)
part C pins: e1 (io), e2 (io), e3 (io), e4 (io), e5 (io), e6 (io), e7 (io), e8 (io), e9 (io), e10 (io), ef1 (power), ef2 (power), ef3 (power), ef4 (power), ef5 (power), ef6 (power), ef7 (power), ef8 (power), ef9 (power), ef10 (power), f1 (io), f2 (io), f3 (io), f4 (io), f5 (io), f6 (io), f7 (io), f8 (io), f9 (io), f10 (io)

## FCI_54602-908LF
designator J?
1 Port, 8 Positions, CAT3 RJ45 Horizontal Modular Jack
pins: 1 (io), 2 (io), 3 (io), 4 (io), 5 (io), 6 (io), 7 (io), 8 (io)

## FCI_95678-001LF
designator J?
1 Port, 8 Positions Shielded Snap PEG, CAT5 RJ45 Horizontal Modular Jack
pins: 1 (io), 2 (io), 3 (io), 4 (io), 5 (io), 6 (io), 7 (io), 8 (io), SHIELD

## HALO_HFJ11-2450ERL
designator J?
1 Port, 1x1 Tab-Down 10/100BASE-TX RJ45, FastJack Connector Module Without LED
pins: 1 TD+ (io), 2 TD- (io), 3 RD+ (io), 4 CT (io), 5 CT (io), 6 RD- (io), 7 NC, 8 GND (power), 9 SHIELD (power), 10 SHIELD (power)
text: TX+; TX-; RX+; RX-; 4x75 Ohms; 1000pF/2kV

## HARTING_09 03 000 9956
designator J?
64 Positions, Rear-Shroud Backplane Connector for DIN 41612 Type C and R Press-in Connectors (a=6.70mm)

## HARTING_09 03 142 x901
designator J?
DIN 41612, Type M, 42 + 6 Special Contacts, Male, Right Angle Connector
part A pins: a10 (io), a11 (io), a12 (io), a13 (io), a14 (io), a15 (io), a16 (io), a17 (io), a18 (io), a19 (io), a20 (io), a21 (io), a22 (io), a23 (io)
part B pins: b10 (io), b11 (io), b12 (io), b13 (io), b14 (io), b15 (io), b16 (io), b17 (io), b18 (io), b19 (io), b20 (io), b21 (io), b22 (io), b23 (io)
part C pins: c10 (io), c11 (io), c12 (io), c13 (io), c14 (io), c15 (io), c16 (io), c17 (io), c18 (io), c19 (io), c20 (io), c21 (io), c22 (io), c23 (io)
part D pins: MTG1 "Mounting Fixture", MTG2 "Mounting Fixture"
part D text: Mounting; Holes

## HARTING_09 12 000 9908
designator J?
7 Positions, PC Board Adaptor For Han Q7/0® Module (PCB Thickness up to 2.4 mm)
pins: 1M7F 1 (io), 2M6F 2 (io), 3M5F 3 (io), 4M4F 4 (io), 5M3F 5 (io), 6M2F 6 (io), 7M1F 7 (io)
text: Adapter For; Han Q7/0 M

## HARTING_09 12 012 9901
designator J?
12 Positions + PE, PC Board Adaptor For Han Q12/0® Module (PCB Thickness up to 2.4 mm)
pins: 1M4F 1 (io), 2M3F 2 (io), 3M2F 3 (io), 4M1F 4 (io), 5M8F 5 (io), 6M7F 6 (io), 7M6F 7 (io), 8M5F 8 (io), 9M10F 9 (io), 10M9F 10 (io), 11M12F 11 (io), 12M11F 12 (io), PE 13 (io)
text: Adapter For; Han Q12/0 M

## HARTING_09 33 000 9812
designator J?
Han 32EE-f PCB Matrix With Contacts
part A pins: 1 (io), 2 (io), 3 (io), 4 (io), 7 (io), 8 (io), 9 (io)
part B pins: 10 (io), 11 (io), 12 (io), 14 (io), 15 (io), 16 (io)
part C pins: 17 (io), 18 (io), 19 (io), 21 (io), 22 (io), 23 (io)
part D pins: 24 (io), 25 (io), 26 (io), 27 (io), 30 (io), 31 (io), 32 (io)

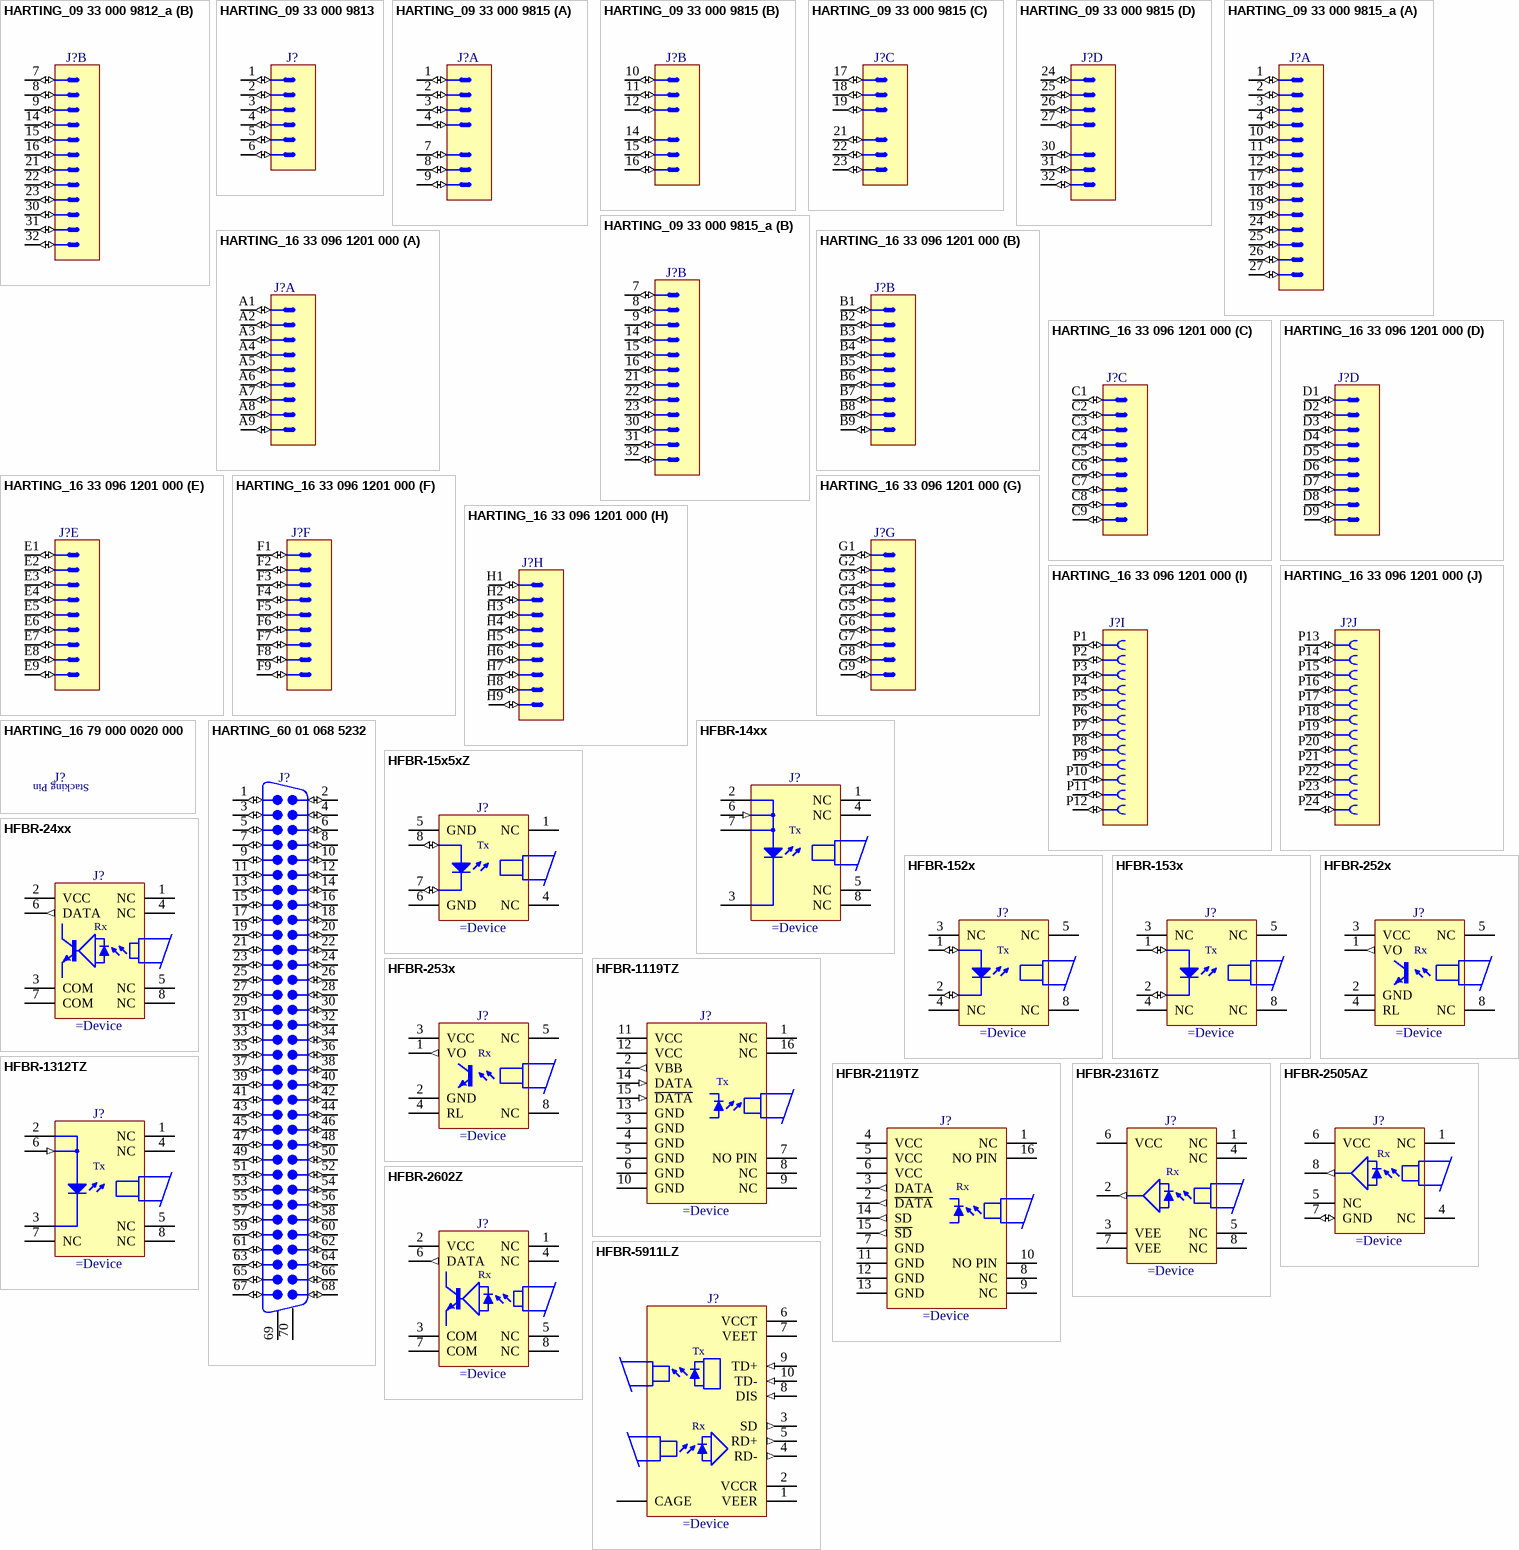
[diagram p58: symbols HARTING_09 33 000 9812_a to HFBR-5911LZ]

## HARTING_09 33 000 9812_a
designator J?
Han 32EE-f PCB Matrix With Contacts
part A pins: 1 (io), 2 (io), 3 (io), 4 (io), 10 (io), 11 (io), 12 (io), 17 (io), 18 (io), 19 (io), 24 (io), 25 (io), 26 (io), 27 (io)
part B pins: 7 (io), 8 (io), 9 (io), 14 (io), 15 (io), 16 (io), 21 (io), 22 (io), 23 (io), 30 (io), 31 (io), 32 (io)

## HARTING_09 33 000 9813
designator J?
Han 6E-m PCB Matrix With Contacts
pins: 1 (io), 2 (io), 3 (io), 4 (io), 5 (io), 6 (io)

## HARTING_09 33 000 9815
designator J?
Han 32EE-m PCB Matrix With Contacts
part A pins: 1 (io), 2 (io), 3 (io), 4 (io), 7 (io), 8 (io), 9 (io)
part B pins: 10 (io), 11 (io), 12 (io), 14 (io), 15 (io), 16 (io)
part C pins: 17 (io), 18 (io), 19 (io), 21 (io), 22 (io), 23 (io)
part D pins: 24 (io), 25 (io), 26 (io), 27 (io), 30 (io), 31 (io), 32 (io)

## HARTING_09 33 000 9815_a
designator J?
Han 32EE-m PCB Matrix With Contacts
part A pins: 1 (io), 2 (io), 3 (io), 4 (io), 10 (io), 11 (io), 12 (io), 17 (io), 18 (io), 19 (io), 24 (io), 25 (io), 26 (io), 27 (io)
part B pins: 7 (io), 8 (io), 9 (io), 14 (io), 15 (io), 16 (io), 21 (io), 22 (io), 23 (io), 30 (io), 31 (io), 32 (io)

## HARTING_16 33 096 1201 000
designator J?
Thru-Hole Press-in Terminations, Lead 3.7 mm, 96 Positions (72 Signal +24 Power), Straight Micro TCA Backplane Connector
part A pins: A1 (io), A2 (io), A3 (io), A4 (io), A5 (io), A6 (io), A7 (io), A8 (io), A9 (io)
part B pins: B1 (io), B2 (io), B3 (io), B4 (io), B5 (io), B6 (io), B7 (io), B8 (io), B9 (io)
part C pins: C1 (io), C2 (io), C3 (io), C4 (io), C5 (io), C6 (io), C7 (io), C8 (io), C9 (io)
part D pins: D1 (io), D2 (io), D3 (io), D4 (io), D5 (io), D6 (io), D7 (io), D8 (io), D9 (io)
part E pins: E1 (io), E2 (io), E3 (io), E4 (io), E5 (io), E6 (io), E7 (io), E8 (io), E9 (io)
part F pins: F1 (io), F2 (io), F3 (io), F4 (io), F5 (io), F6 (io), F7 (io), F8 (io), F9 (io)
part G pins: G1 (io), G2 (io), G3 (io), G4 (io), G5 (io), G6 (io), G7 (io), G8 (io), G9 (io)
part H pins: H1 (io), H2 (io), H3 (io), H4 (io), H5 (io), H6 (io), H7 (io), H8 (io), H9 (io)
part I pins: P1 (io), P2 (io), P3 (io), P4 (io), P5 (io), P6 (io), P7 (io), P8 (io), P9 (io), P10 (io), P11 (io), P12 (io)
part J pins: P13 (io), P14 (io), P15 (io), P16 (io), P17 (io), P18 (io), P19 (io), P20 (io), P21 (io), P22 (io), P23 (io), P24 (io)

## HARTING_16 79 000 0020 000
designator J?
Quad Length (22.5mm) Stacking Pin For 1x AdvancedMC Basic Side + 2x MCH-Plug Basic Side + 1x Piggyback Connector (Basic Side)
text: Stacking Pin

## HARTING_60 01 068 5232
designator J?
68 Positions, Right Angle HAR-MIK Male Connector, Panel Fixing M2.5 / PCB Fixing M2.5
pins: 1 (io), 2 (io), 3 (io), 4 (io), 5 (io), 6 (io), 7 (io), 8 (io), 9 (io), 10 (io), 11 (io), 12 (io), 13 (io), 14 (io), 15 (io), 16 (io), 17 (io), 18 (io), 19 (io), 20 (io), 21 (io), 22 (io), 23 (io), 24 (io), 25 (io), 26 (io), 27 (io), 28 (io), 29 (io), 30 (io), 31 (io), 32 (io), 33 (io), 34 (io), 35 (io), 36 (io), 37 (io), 38 (io), 39 (io), 40 (io), 41 (io), 42 (io), 43 (io), 44 (io), 45 (io), 46 (io), 47 (io), 48 (io), 49 (io), 50 (io), 51 (io), 52 (io), 53 (io), 54 (io), 55 (io), 56 (io), 57 (io), 58 (io), 59 (io), 60 (io), 61 (io), 62 (io), 63 (io), 64 (io), 65 (io), 66 (io), 67 (io), 68 (io), 69, 70
1 alternate drawing of the same symbol

## HFBR-14xx
designator J?
HFBR-0400Z Series, Fiber Optic Transmitter
pins: 1 NC, 2 A (power), 3 C (power), 4 NC, 5 NC, 6 A (in), 7 A (power), 8 NC
text: Tx

## HFBR-15x5xZ
designator J?
HFBR-1505xZ, HFBR-1515xZ Series, Fiber Optic Transmitter
pins: 1 NC, 4 NC, 5 GND (power), 6 GND (power), 7 C (io), 8 A (io)
text: Tx

## HFBR-24xx
designator J?
HFBR-0400Z Series, Fiber Optic Receiver
pins: 1 NC, 2 VCC (power), 3 COM (power), 4 NC, 5 NC, 6 DATA (out), 7 COM (power), 8 NC
text: Rx

## HFBR-152x
designator J?
HFBR-0500Z Series, Fiber Optic Transmitter
pins: 1 A (io), 2 C (io), 3 NC, 4 NC, 5 NC, 8 NC
text: Tx

## HFBR-153x
designator J?
HFBR-0500Z Series, Fiber Optic Transmitter
pins: 1 A (io), 2 C (io), 3 NC, 4 NC, 5 NC, 8 NC
text: Tx

## HFBR-252x
designator J?
HFBR-0500Z Series, Fiber Optic Receiver
pins: 1 VO (out), 2 GND (power), 3 VCC (power), 4 RL, 5 NC, 8 NC
text: Rx

## HFBR-253x
designator J?
HFBR-0500Z Series, Fiber Optic Receiver
pins: 1 VO (out), 2 GND (power), 3 VCC (power), 4 RL, 5 NC, 8 NC
text: Rx

## HFBR-1119TZ
designator J?
266MBd, 1300 nm Fiber Optic Transmitter Data Link
pins: 1 NC, 2 VBB (out), 3 GND (power), 4 GND (power), 5 GND (power), 6 GND (power), 7 NO PIN, 8 NC, 9 NC, 10 GND (power), 11 VCC (power), 12 VCC (power), 13 GND (power), 14 DATA (in), 15 ~{DATA} (in), 16 NC
text: Tx

## HFBR-1312TZ
designator J?
HFBR-0300Z Series, 155Mbps, 1300 nm Fiber Optic Transmitter
pins: 1 NC, 2 A (power), 3 C (power), 4 NC, 5 NC, 6 A (in), 7 NC, 8 NC
text: Tx

## HFBR-2119TZ
designator J?
266MBd, 1300 nm Fiber Optic Receiver Data Link
pins: 1 NC, 2 ~{DATA} (out), 3 DATA (out), 4 VCC (power), 5 VCC (power), 6 VCC (power), 7 GND (power), 8 NC, 9 NC, 10 NO PIN, 11 GND (power), 12 GND (power), 13 GND (power), 14 SD (out), 15 ~{SD} (out), 16 NO PIN
text: Rx

## HFBR-2316TZ
designator J?
HFBR-0300Z Series, 155Mbps, 1300 nm Fiber Optic Receiver
pins: 1 NC, 2 SIG (out), 3 VEE (power), 4 NC, 5 NC, 6 VCC (power), 7 VEE (power), 8 NC
text: Rx

## HFBR-2505AZ
designator J?
Fiber Optic Receiver
pins: 1 NC, 4 NC, 5 NC, 6 VCC (power), 7 GND (io), 8 VO (out)
text: Rx

## HFBR-2602Z
designator J?
HFBR-2602Z Fiber Optic Receiver
pins: 1 NC, 2 VCC (power), 3 COM (power), 4 NC, 5 NC, 6 DATA (out), 7 COM (power), 8 NC
text: Rx

## HFBR-5911LZ
designator J?
Small Form Factor (SFF) Optical Transceiver for Gigabit Ethernet (1.25 GBd) and iSCSI
pins: 1 VEER (power), 2 VCCR (power), 3 SD (out), 4 RD- (out), 5 RD+ (out), 6 VCCT (power), 7 VEET (power), 8 DIS (in), 9 TD+ (in), 10 TD- (in), CAGE (power)
text: Tx; Rx

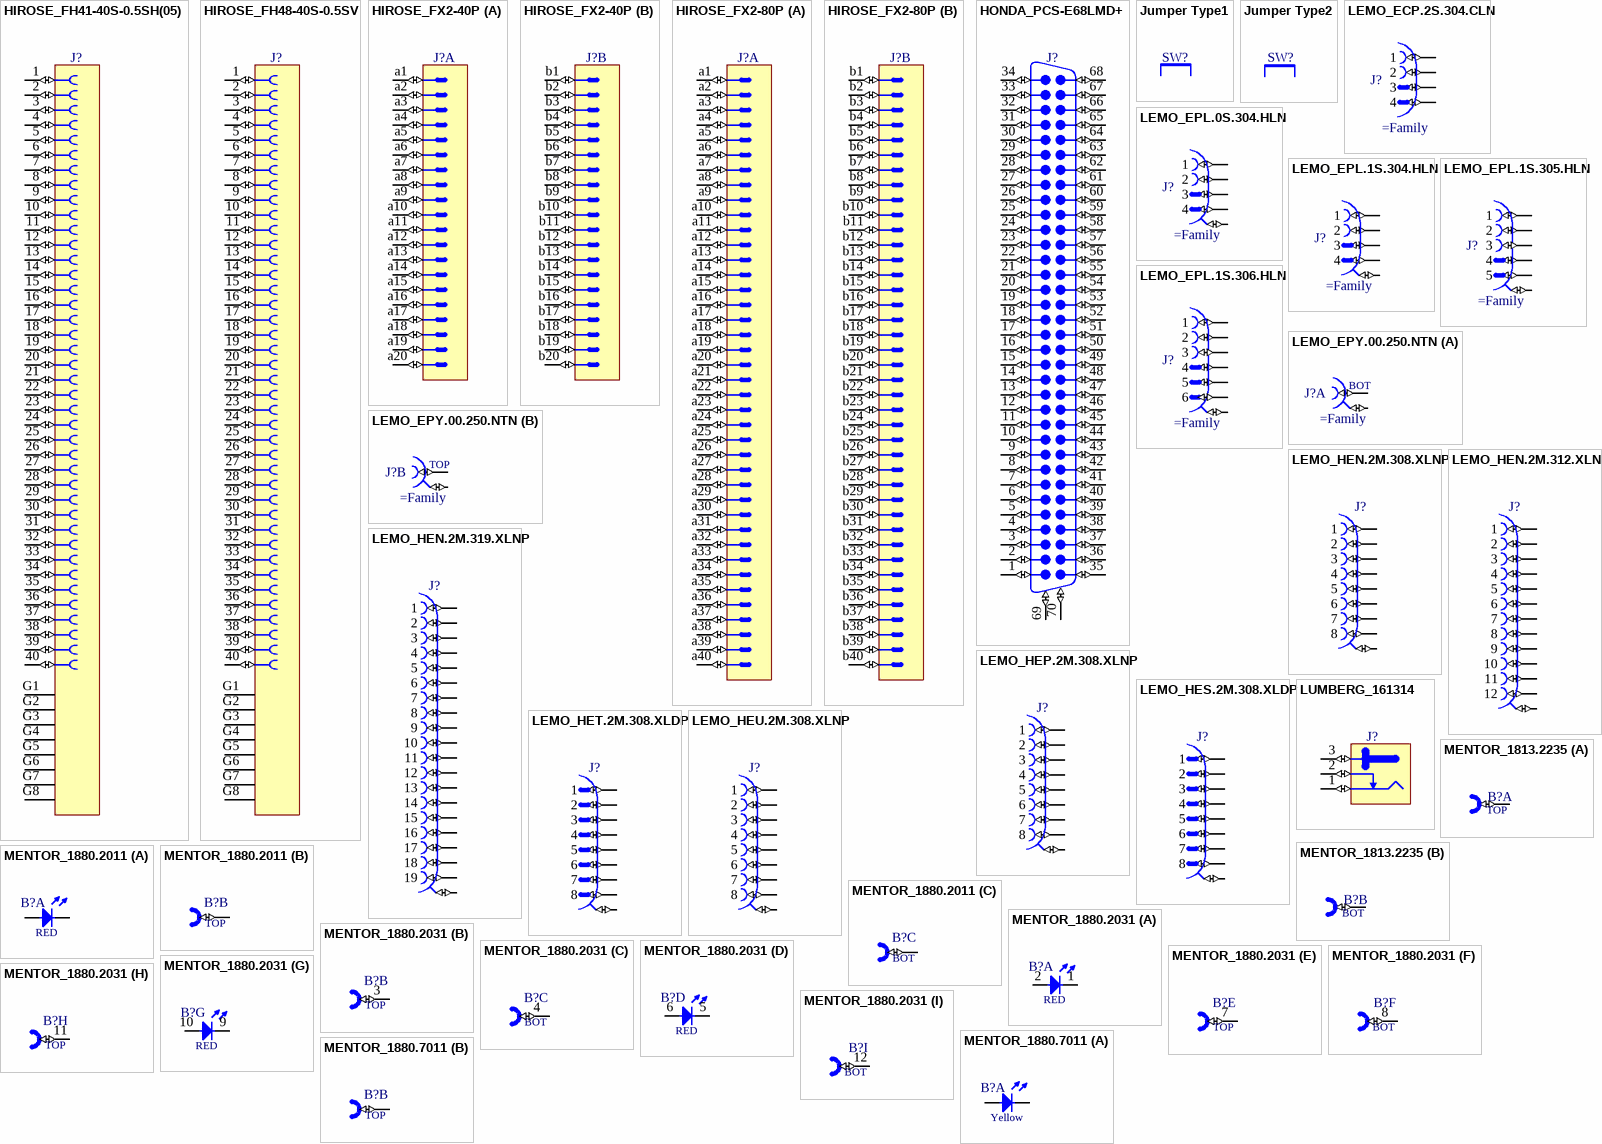
[diagram p59: symbols HIROSE_FH41-40S-0.5SH(05) to MENTOR_1880.7011]

## HIROSE_FH41-40S-0.5SH(05)
designator J?
40 Contacts, 0.5mm Pitch, 2.5mm, Horizontal Mounting, High Speed Transmission Connector for Shielded FFC, FH41 Serie
pins: 1 (io), 2 (io), 3 (io), 4 (io), 5 (io), 6 (io), 7 (io), 8 (io), 9 (io), 10 (io), 11 (io), 12 (io), 13 (io), 14 (io), 15 (io), 16 (io), 17 (io), 18 (io), 19 (io), 20 (io), 21 (io), 22 (io), 23 (io), 24 (io), 25 (io), 26 (io), 27 (io), 28 (io), 29 (io), 30 (io), 31 (io), 32 (io), 33 (io), 34 (io), 35 (io), 36 (io), 37 (io), 38 (io), 39 (io), 40 (io), G1 (power), G2 (power), G3 (power), G4 (power), G5 (power), G6 (power), G7 (power), G8 (power)

## HIROSE_FH48-40S-0.5SV
designator J?
40 Contacts, 0.5mm Pitch, 2.5mm, Vertical Mounting, High Speed Transmission Connector for Shielded FFC
pins: 1 (io), 2 (io), 3 (io), 4 (io), 5 (io), 6 (io), 7 (io), 8 (io), 9 (io), 10 (io), 11 (io), 12 (io), 13 (io), 14 (io), 15 (io), 16 (io), 17 (io), 18 (io), 19 (io), 20 (io), 21 (io), 22 (io), 23 (io), 24 (io), 25 (io), 26 (io), 27 (io), 28 (io), 29 (io), 30 (io), 31 (io), 32 (io), 33 (io), 34 (io), 35 (io), 36 (io), 37 (io), 38 (io), 39 (io), 40 (io), G1 (power), G2 (power), G3 (power), G4 (power), G5 (power), G6 (power), G7 (power), G8 (power)

## HIROSE_FX2-40P
designator J?
40 Contacts, 1.27mm Pitch, Board to Board & Mezzanine Header with Prefixed Pin
part A pins: a1 (io), a2 (io), a3 (io), a4 (io), a5 (io), a6 (io), a7 (io), a8 (io), a9 (io), a10 (io), a11 (io), a12 (io), a13 (io), a14 (io), a15 (io), a16 (io), a17 (io), a18 (io), a19 (io), a20 (io)
part B pins: b1 (io), b2 (io), b3 (io), b4 (io), b5 (io), b6 (io), b7 (io), b8 (io), b9 (io), b10 (io), b11 (io), b12 (io), b13 (io), b14 (io), b15 (io), b16 (io), b17 (io), b18 (io), b19 (io), b20 (io)

## HIROSE_FX2-80P
designator J?
80 Contacts, 1.27mm Pitch, Board to Board & Mezzanine Header with Prefixed Pin
part A pins: a1 (io), a2 (io), a3 (io), a4 (io), a5 (io), a6 (io), a7 (io), a8 (io), a9 (io), a10 (io), a11 (io), a12 (io), a13 (io), a14 (io), a15 (io), a16 (io), a17 (io), a18 (io), a19 (io), a20 (io), a21 (io), a22 (io), a23 (io), a24 (io), a25 (io), a26 (io), a27 (io), a28 (io), a29 (io), a30 (io), a31 (io), a32 (io), a33 (io), a34 (io), a35 (io), a36 (io), a37 (io), a38 (io), a39 (io), a40 (io)
part B pins: b1 (io), b2 (io), b3 (io), b4 (io), b5 (io), b6 (io), b7 (io), b8 (io), b9 (io), b10 (io), b11 (io), b12 (io), b13 (io), b14 (io), b15 (io), b16 (io), b17 (io), b18 (io), b19 (io), b20 (io), b21 (io), b22 (io), b23 (io), b24 (io), b25 (io), b26 (io), b27 (io), b28 (io), b29 (io), b30 (io), b31 (io), b32 (io), b33 (io), b34 (io), b35 (io), b36 (io), b37 (io), b38 (io), b39 (io), b40 (io)

## HONDA_PCS-E68LMD+
designator J?
1.27mm Pitch Connector, 68 Male Contacts, Right-Angle, PCS Series
pins: 1 (io), 2 (io), 3 (io), 4 (io), 5 (io), 6 (io), 7 (io), 8 (io), 9 (io), 10 (io), 11 (io), 12 (io), 13 (io), 14 (io), 15 (io), 16 (io), 17 (io), 18 (io), 19 (io), 20 (io), 21 (io), 22 (io), 23 (io), 24 (io), 25 (io), 26 (io), 27 (io), 28 (io), 29 (io), 30 (io), 31 (io), 32 (io), 33 (io), 34 (io), 35 (io), 36 (io), 37 (io), 38 (io), 39 (io), 40 (io), 41 (io), 42 (io), 43 (io), 44 (io), 45 (io), 46 (io), 47 (io), 48 (io), 49 (io), 50 (io), 51 (io), 52 (io), 53 (io), 54 (io), 55 (io), 56 (io), 57 (io), 58 (io), 59 (io), 60 (io), 61 (io), 62 (io), 63 (io), 64 (io), 65 (io), 66 (io), 67 (io), 68 (io), 69 (io), 70 (io)
1 alternate drawing of the same symbol

## Jumper Type1
designator SW?  (value not drawn)
Jumper 1 Pin
pins: 1 (io)

## Jumper Type2
designator SW?  (value not drawn)
Jumper 2 pins
pins: 1 (io), 2 (io)

## LEMO_ECP.2S.304.CLN
designator J?
Coax 2 Female (1-2) + 2 Male (3-4)_No Shield
pins: 1 (io), 2 (io), 3 (io), 4 (io)

## LEMO_EPL.0S.304.HLN
designator J?
Coax 2 Female + 2 Male + 1 Shield
pins: 1 (io), 2 (io), 3 (io), 4 (io), 5 (io)

## LEMO_EPL.1S.304.HLN
designator J?
Coax 2 Female + 2 Male + 1 Shield
pins: 1 (io), 2 (io), 3 (io), 4 (io), 5 (io)

## LEMO_EPL.1S.305.HLN
designator J?
Coax 3 Female + 2 Male + 1 Shield
pins: 1 (io), 2 (io), 3 (io), 4 (io), 5 (io), 6 (io)

## LEMO_EPL.1S.306.HLN
designator J?
Coax 3 Female + 3 Male + 1 Shield
pins: 1 (io), 2 (io), 3 (io), 4 (io), 5 (io), 6 (io), 7 (io)

## LEMO_EPY.00.250.NTN
designator J?
Dual Female Coax 1-2 Common Shield 3
part A pins: 1 (io), 3 (io)
part B pins: 2 (io), 3 (io)
part A text: BOT
part B text: TOP

## LEMO_HEN.2M.308.XLNP
designator J?
Size 2M, 8 Female  Contacts Circular Watertight (IP 68) Receptacle, with Fixing Nut
pins: 1 (io), 2 (io), 3 (io), 4 (io), 5 (io), 6 (io), 7 (io), 8 (io), 9 (io), 10 (io), 11 (io), 12 (io)
1 alternate drawing of the same symbol

## LEMO_HEN.2M.312.XLNP
designator J?
Size 2M, 12 Female  Contacts Circular Watertight (IP 68) Receptacle, with Fixing Nut
pins: 1 (io), 2 (io), 3 (io), 4 (io), 5 (io), 6 (io), 7 (io), 8 (io), 9 (io), 10 (io), 11 (io), 12 (io), 13 (io), 14 (io), 15 (io), 16 (io)
1 alternate drawing of the same symbol

## LEMO_HEN.2M.319.XLNP
designator J?
Size 2M, 19 Female Contacts Circular Watertight (IP 68) Receptacle, with Fixing Nut
pins: 1 (io), 2 (io), 3 (io), 4 (io), 5 (io), 6 (io), 7 (io), 8 (io), 9 (io), 10 (io), 11 (io), 12 (io), 13 (io), 14 (io), 15 (io), 16 (io), 17 (io), 18 (io), 19 (io), 20 (io), 21 (io), 22 (io), 23 (io)
1 alternate drawing of the same symbol

## LEMO_HEP.2M.308.XLNP
designator J?
Size 2M, 8 Female  Contacts Circular Watertight (IP 68) Receptacle, with Fixing Nut
pins: 1 (io), 2 (io), 3 (io), 4 (io), 5 (io), 6 (io), 7 (io), 8 (io), 9 (io), 10 (io), 11 (io), 12 (io)
1 alternate drawing of the same symbol

## LEMO_HES.2M.308.XLDP
designator J?
Size 2M, 8 Male Contacts Circular Watertight (IP 68) Receptacle, with Fixing Nut
pins: 1 (io), 2 (io), 3 (io), 4 (io), 5 (io), 6 (io), 7 (io), 8 (io), 9 (io), 10 (io), 11 (io), 12 (io)
1 alternate drawing of the same symbol

## LEMO_HET.2M.308.XLDP
designator J?
Size 2M, 8 Male Contacts Circular Watertight (IP 68) Receptacle, with Fixing Nut
pins: 1 (io), 2 (io), 3 (io), 4 (io), 5 (io), 6 (io), 7 (io), 8 (io), 9 (io), 10 (io), 11 (io), 12 (io)
1 alternate drawing of the same symbol

## LEMO_HEU.2M.308.XLNP
designator J?
Size 2M, 8 Female  Contacts Circular Watertight (IP 68) Receptacle, with Fixing Nut
pins: 1 (io), 2 (io), 3 (io), 4 (io), 5 (io), 6 (io), 7 (io), 8 (io), 9 (io), 10 (io), 11 (io), 12 (io)
1 alternate drawing of the same symbol

## LUMBERG_161314
designator J?
24V /3. 5A, 2.1mm Diameter Pin, SMD DC Power Supply Connector With  Break Contact
pins: 1 (io), 2 (io), 3 (io)

## MENTOR_1813.2235
designator B?
2 x Right Angled Test Jack 2mm
part A pins: 1 (io)
part B pins: 2 (io)
part A text: TOP
part B text: BOT

## MENTOR_1880.2011
designator B?
2 x TEST JACK 2mm + 1 x RED LED 3mm PCB EDGE MOUNTING
part A pins: 1 C, 2 A
part B pins: 3 (io)
part C pins: 4 (io)
part A text: RED
part B text: TOP
part C text: BOT

## MENTOR_1880.2031
designator B?
6 x Test JACK 2mm + 3 x Red LED 3mm PCB Edge Mounting
part A pins: 1 C, 2 A
part B pins: 3 (io)
part C pins: 4 (io)
part D pins: 5 C, 6 A
part E pins: 7 (io)
part F pins: 8 (io)
part G pins: 9 C, 10 A
part H pins: 11 (io)
part I pins: 12 (io)
part A text: RED
part B text: TOP
part C text: BOT
part D text: RED
part E text: TOP
part F text: BOT
part G text: RED
part H text: TOP
part I text: BOT

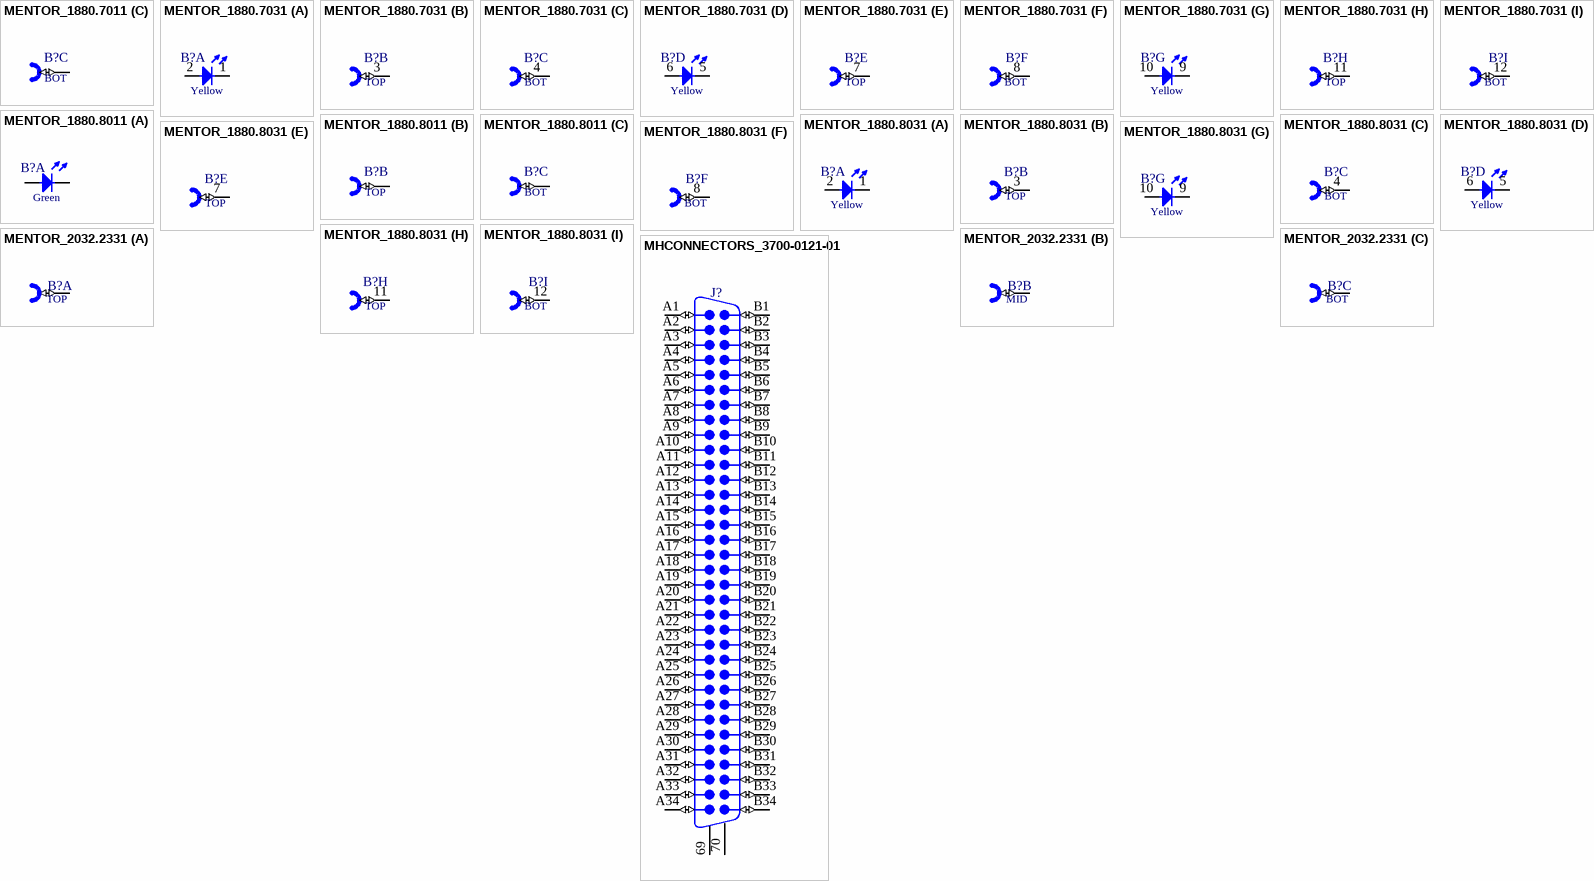
[diagram p60: symbols MENTOR_1880.7011 to MHCONNECTORS_3700-0121-01]

## MENTOR_1880.7011
designator B?
2 x TEST JACK 2mm + 1 x Yellow LED 3mm PCB EDGE MOUNTING
part A pins: 1 C, 2 A
part B pins: 3 (io)
part C pins: 4 (io)
part A text: Yellow
part B text: TOP
part C text: BOT

## MENTOR_1880.7031
designator B?
6 x Test JACK 2mm + 3 x Yellow LED 3mm PCB Edge Mounting
part A pins: 1 C, 2 A
part B pins: 3 (io)
part C pins: 4 (io)
part D pins: 5 C, 6 A
part E pins: 7 (io)
part F pins: 8 (io)
part G pins: 9 C, 10 A
part H pins: 11 (io)
part I pins: 12 (io)
part A text: Yellow
part B text: TOP
part C text: BOT
part D text: Yellow
part E text: TOP
part F text: BOT
part G text: Yellow
part H text: TOP
part I text: BOT

## MENTOR_1880.8011
designator B?
2 x TEST JACK 2mm + 1 x Green LED 3mm PCB EDGE MOUNTING
part A pins: 1 C, 2 A
part B pins: 3 (io)
part C pins: 4 (io)
part A text: Green
part B text: TOP
part C text: BOT

## MENTOR_1880.8031
designator B?
6 x Test JACK 2mm + 3 x Green LED 3mm PCB Edge Mounting
part A pins: 1 C, 2 A
part B pins: 3 (io)
part C pins: 4 (io)
part D pins: 5 C, 6 A
part E pins: 7 (io)
part F pins: 8 (io)
part G pins: 9 C, 10 A
part H pins: 11 (io)
part I pins: 12 (io)
part A text: Yellow
part B text: TOP
part C text: BOT
part D text: Yellow
part E text: TOP
part F text: BOT
part G text: Yellow
part H text: TOP
part I text: BOT

## MENTOR_2032.2331
designator B?
3 x Right Angled Test Jack 2mm
part A pins: 1 (io)
part B pins: 2 (io)
part C pins: 3 (io)
part A text: TOP
part B text: MID
part C text: BOT

## MHCONNECTORS_3700-0121-01
designator J?
68 contacts, Pitch .050", Right Angled  SCSI Header
pins: 69, 70, A1 (io), A2 (io), A3 (io), A4 (io), A5 (io), A6 (io), A7 (io), A8 (io), A9 (io), A10 (io), A11 (io), A12 (io), A13 (io), A14 (io), A15 (io), A16 (io), A17 (io), A18 (io), A19 (io), A20 (io), A21 (io), A22 (io), A23 (io), A24 (io), A25 (io), A26 (io), A27 (io), A28 (io), A29 (io), A30 (io), A31 (io), A32 (io), A33 (io), A34 (io), B1 (io), B2 (io), B3 (io), B4 (io), B5 (io), B6 (io), B7 (io), B8 (io), B9 (io), B10 (io), B11 (io), B12 (io), B13 (io), B14 (io), B15 (io), B16 (io), B17 (io), B18 (io), B19 (io), B20 (io), B21 (io), B22 (io), B23 (io), B24 (io), B25 (io), B26 (io), B27 (io), B28 (io), B29 (io), B30 (io), B31 (io), B32 (io), B33 (io), B34 (io)
1 alternate drawing of the same symbol

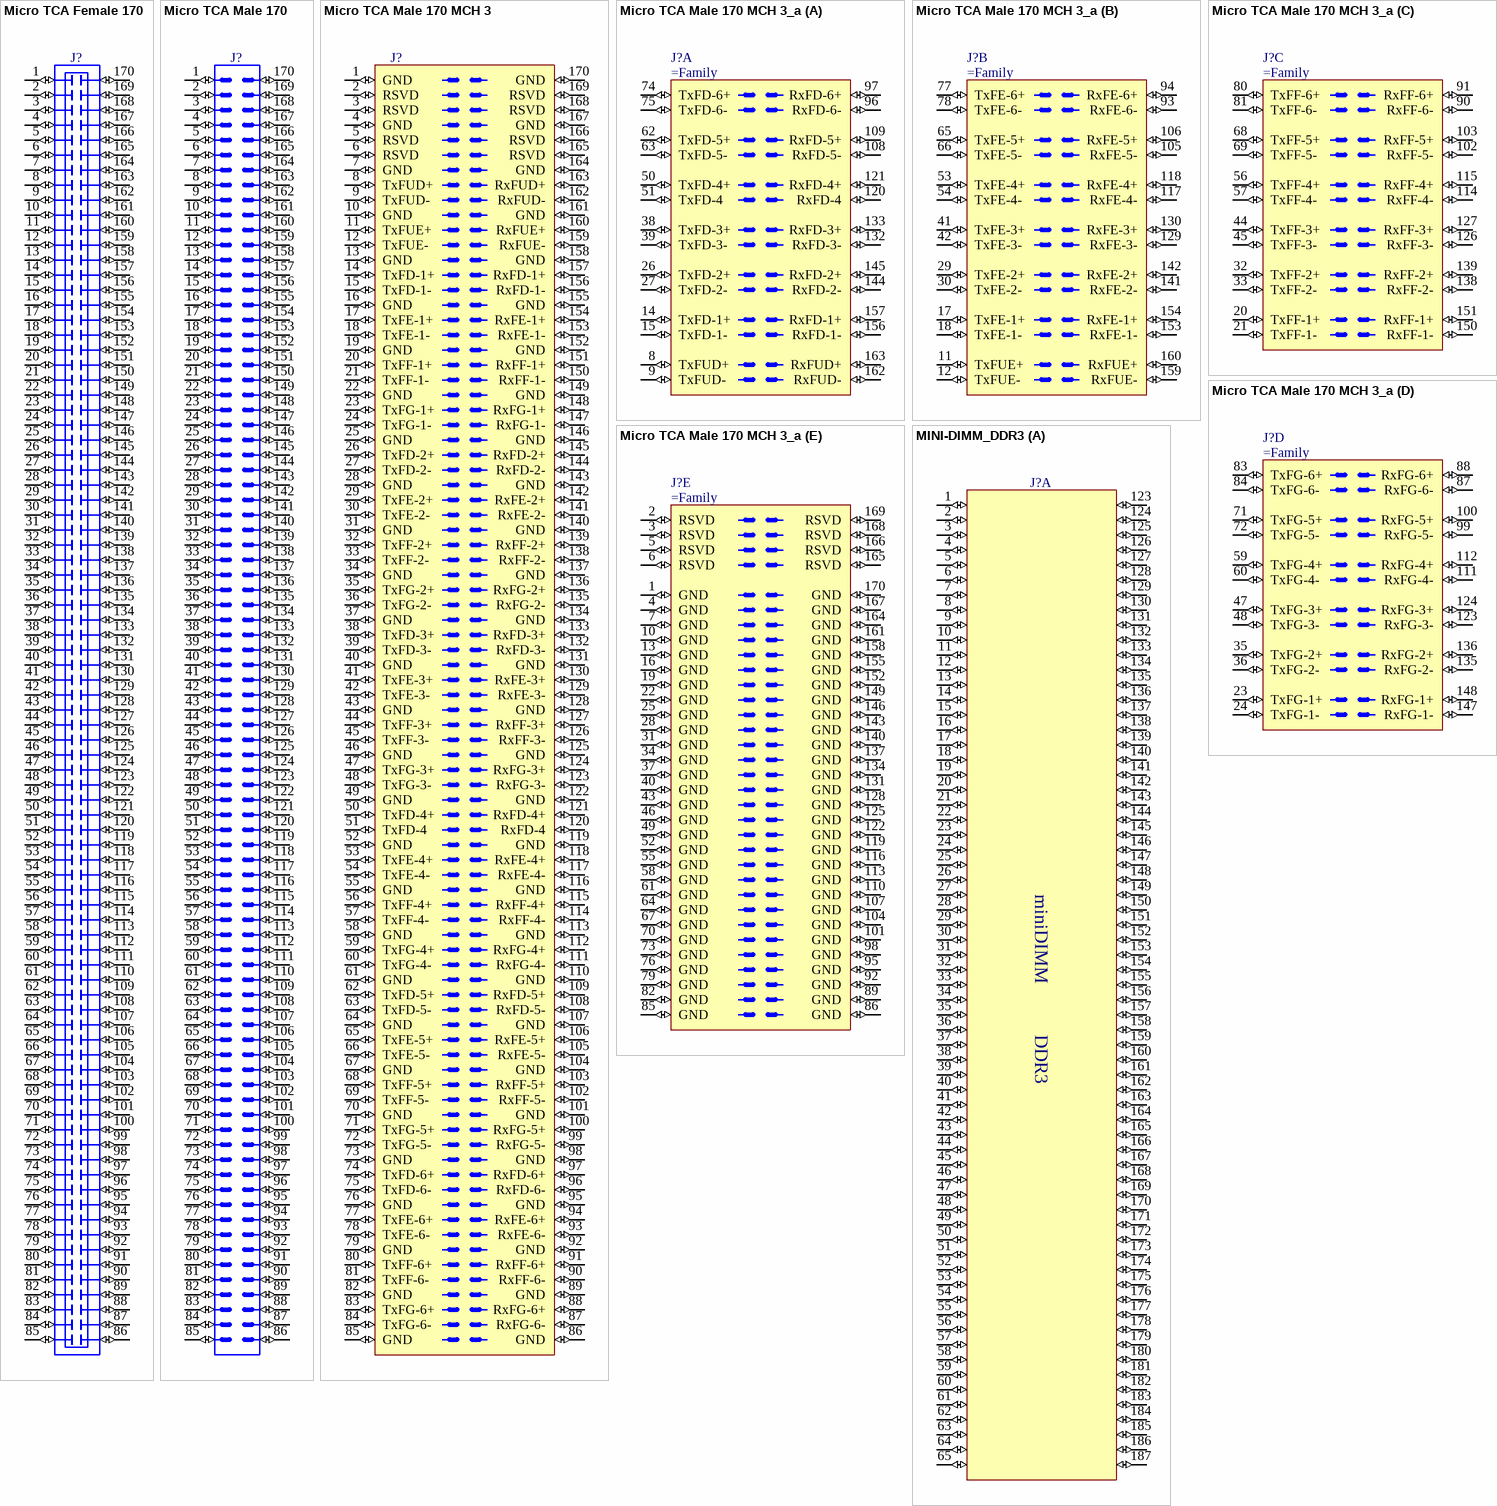
[diagram p61: symbols Micro TCA Female 170 to MINI-DIMM_DDR3]

## Micro TCA Female 170
designator J?
170 Poles,  Micro TCA (Telecom Computing Architecture) Edge Card Socket
pins: 1 (io), 2 (io), 3 (io), 4 (io), 5 (io), 6 (io), 7 (io), 8 (io), 9 (io), 10 (io), 11 (io), 12 (io), 13 (io), 14 (io), 15 (io), 16 (io), 17 (io), 18 (io), 19 (io), 20 (io), 21 (io), 22 (io), 23 (io), 24 (io), 25 (io), 26 (io), 27 (io), 28 (io), 29 (io), 30 (io), 31 (io), 32 (io), 33 (io), 34 (io), 35 (io), 36 (io), 37 (io), 38 (io), 39 (io), 40 (io), 41 (io), 42 (io), 43 (io), 44 (io), 45 (io), 46 (io), 47 (io), 48 (io), 49 (io), 50 (io), 51 (io), 52 (io), 53 (io), 54 (io), 55 (io), 56 (io), 57 (io), 58 (io), 59 (io), 60 (io), 61 (io), 62 (io), 63 (io), 64 (io), 65 (io), 66 (io), 67 (io), 68 (io), 69 (io), 70 (io), 71 (io), 72 (io), 73 (io), 74 (io), 75 (io), 76 (io), 77 (io), 78 (io), 79 (io), 80 (io), 81 (io), 82 (io), 83 (io), 84 (io), 85 (io), 86 (io), 87 (io), 88 (io), 89 (io), 90 (io), 91 (io), 92 (io), 93 (io), 94 (io), 95 (io), 96 (io), 97 (io), 98 (io), 99 (io), 100 (io), 101 (io), 102 (io), 103 (io), 104 (io), 105 (io), 106 (io), 107 (io), 108 (io), 109 (io), 110 (io), 111 (io), 112 (io), 113 (io), 114 (io), 115 (io), 116 (io), 117 (io), 118 (io), 119 (io), 120 (io), 121 (io), 122 (io), 123 (io), 124 (io), 125 (io), 126 (io), 127 (io), 128 (io), 129 (io), 130 (io), 131 (io), 132 (io), 133 (io), 134 (io), 135 (io), 136 (io), 137 (io), 138 (io), 139 (io), 140 (io), 141 (io), 142 (io), 143 (io), 144 (io), 145 (io), 146 (io), 147 (io), 148 (io), 149 (io), 150 (io), 151 (io), 152 (io), 153 (io), 154 (io), 155 (io), 156 (io), 157 (io), 158 (io), 159 (io), 160 (io), 161 (io), 162 (io), 163 (io), 164 (io), 165 (io), 166 (io), 167 (io), 168 (io), 169 (io), 170 (io)

## Micro TCA Male 170
designator J?
170 Contact MicroTCA (Telecom Computing Architecture) Board Edge Connector
pins: 1 (io), 2 (io), 3 (io), 4 (io), 5 (io), 6 (io), 7 (io), 8 (io), 9 (io), 10 (io), 11 (io), 12 (io), 13 (io), 14 (io), 15 (io), 16 (io), 17 (io), 18 (io), 19 (io), 20 (io), 21 (io), 22 (io), 23 (io), 24 (io), 25 (io), 26 (io), 27 (io), 28 (io), 29 (io), 30 (io), 31 (io), 32 (io), 33 (io), 34 (io), 35 (io), 36 (io), 37 (io), 38 (io), 39 (io), 40 (io), 41 (io), 42 (io), 43 (io), 44 (io), 45 (io), 46 (io), 47 (io), 48 (io), 49 (io), 50 (io), 51 (io), 52 (io), 53 (io), 54 (io), 55 (io), 56 (io), 57 (io), 58 (io), 59 (io), 60 (io), 61 (io), 62 (io), 63 (io), 64 (io), 65 (io), 66 (io), 67 (io), 68 (io), 69 (io), 70 (io), 71 (io), 72 (io), 73 (io), 74 (io), 75 (io), 76 (io), 77 (io), 78 (io), 79 (io), 80 (io), 81 (io), 82 (io), 83 (io), 84 (io), 85 (io), 86 (io), 87 (io), 88 (io), 89 (io), 90 (io), 91 (io), 92 (io), 93 (io), 94 (io), 95 (io), 96 (io), 97 (io), 98 (io), 99 (io), 100 (io), 101 (io), 102 (io), 103 (io), 104 (io), 105 (io), 106 (io), 107 (io), 108 (io), 109 (io), 110 (io), 111 (io), 112 (io), 113 (io), 114 (io), 115 (io), 116 (io), 117 (io), 118 (io), 119 (io), 120 (io), 121 (io), 122 (io), 123 (io), 124 (io), 125 (io), 126 (io), 127 (io), 128 (io), 129 (io), 130 (io), 131 (io), 132 (io), 133 (io), 134 (io), 135 (io), 136 (io), 137 (io), 138 (io), 139 (io), 140 (io), 141 (io), 142 (io), 143 (io), 144 (io), 145 (io), 146 (io), 147 (io), 148 (io), 149 (io), 150 (io), 151 (io), 152 (io), 153 (io), 154 (io), 155 (io), 156 (io), 157 (io), 158 (io), 159 (io), 160 (io), 161 (io), 162 (io), 163 (io), 164 (io), 165 (io), 166 (io), 167 (io), 168 (io), 169 (io), 170 (io)